# Altium schematic symbol library Atmel_By_element14_Batch_1-00.SCHLIB: 346 symbols (part 1 of 5)
Pins are listed as number, name and electrical type; pins without a type are passive.

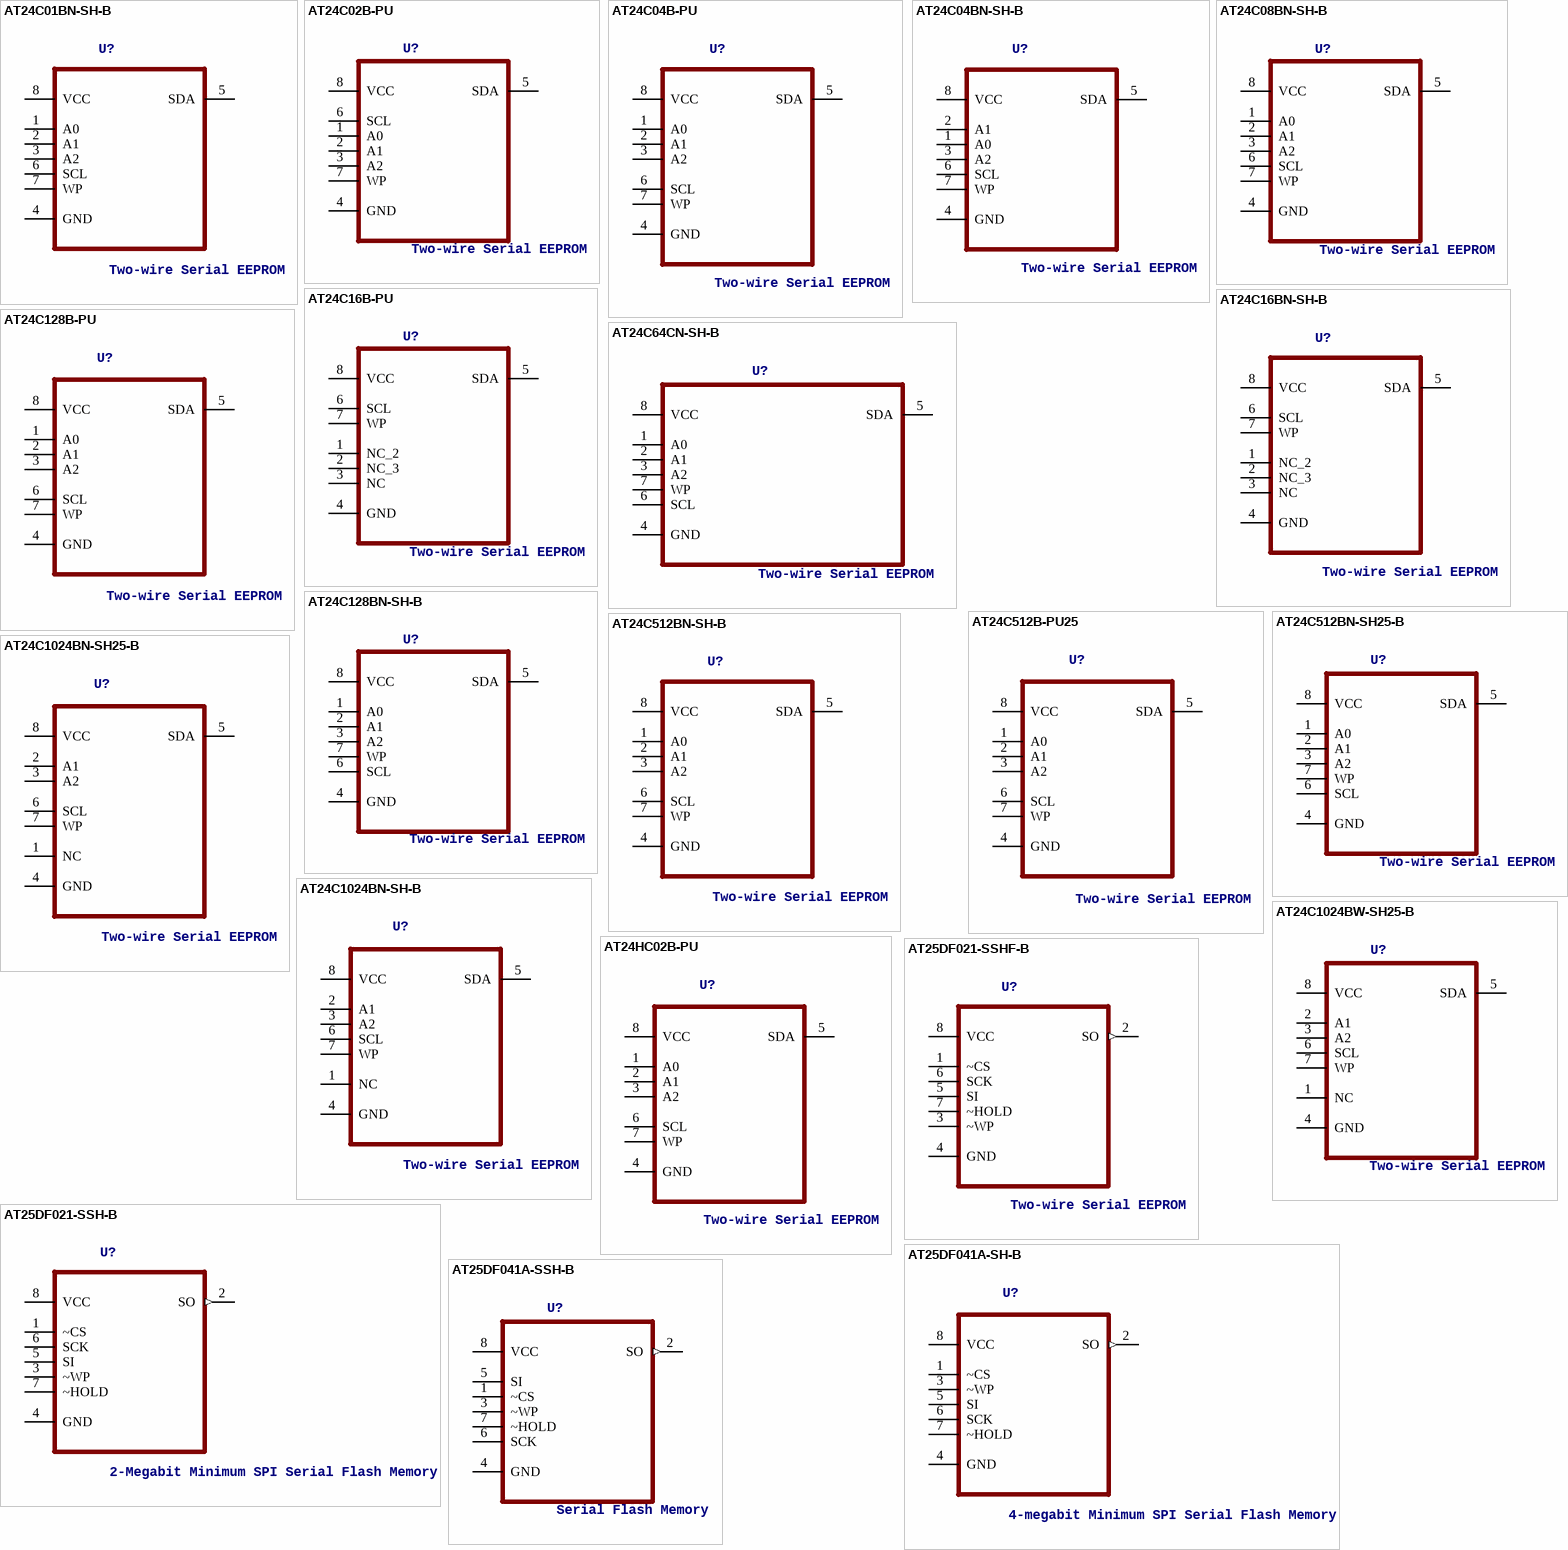
[diagram p0: symbols AT24C01BN-SH-B to AT25DF041A-SSH-B]

## AT24C01BN-SH-B
designator U?, comment Two-wire Serial EEPROM
MPN: AT24C01BN-SH-B; OC_FARNELL: 1362638; OC_NEWARK: 50M3313; PACKAGE: SOIC-8; SUPPLIER: Atmel
footprint SOIC127P600X175-8N
pins: 1 A0, 2 A1, 3 A2, 4 GND, 5 SDA, 6 SCL, 7 WP, 8 VCC (power)

## AT24C02B-PU
designator U?, comment Two-wire Serial EEPROM
MPN: AT24C02B-PU; OC_FARNELL: 1362639; OC_NEWARK: 50M3314; PACKAGE: DIP-8; SUPPLIER: Atmel
footprint DIP254P762X533-8
pins: 1 A0, 2 A1, 3 A2, 4 GND, 5 SDA, 6 SCL, 7 WP, 8 VCC (power)

## AT24C04B-PU
designator U?, comment Two-wire Serial EEPROM
MPN: AT24C04B-PU; OC_FARNELL: 1362642; OC_NEWARK: 50M3315; PACKAGE: PDIP-8; SUPPLIER: Atmel
footprint DIP254P762X533-8
pins: 1 A0, 2 A1, 3 A2, 4 GND, 5 SDA, 6 SCL, 7 WP, 8 VCC (power)

## AT24C04BN-SH-B
designator U?, comment Two-wire Serial EEPROM
MPN: AT24C04BN-SH-B; OC_FARNELL: 1362643; OC_NEWARK: 50M3316; PACKAGE: SOIC-8; SUPPLIER: Atmel
footprint SOIC127P600X175-8N
pins: 1 A0, 2 A1, 3 A2, 4 GND, 5 SDA, 6 SCL, 7 WP, 8 VCC (power)

## AT24C08BN-SH-B
designator U?, comment Two-wire Serial EEPROM
MPN: AT24C08BN-SH-B; OC_FARNELL: 1362645; OC_NEWARK: 50M3318; PACKAGE: SOIC-8; SUPPLIER: Atmel
footprint SOIC127P600X175-8N
pins: 1 A0, 2 A1, 3 A2, 4 GND, 5 SDA, 6 SCL, 7 WP, 8 VCC (power)

## AT24C16B-PU
designator U?, comment Two-wire Serial EEPROM
MPN: AT24C16B-PU; OC_FARNELL: 1362650; OC_NEWARK: 50M3323; PACKAGE: PDIP-8; SUPPLIER: Atmel
footprint DIP254P762X533-8
pins: 1 NC_2, 2 NC_3, 3 NC, 4 GND, 5 SDA, 6 SCL, 7 WP, 8 VCC (power)

## AT24C16BN-SH-B
designator U?, comment Two-wire Serial EEPROM
MPN: AT24C16BN-SH-B; OC_FARNELL: 1362651; OC_NEWARK: 50M3324; PACKAGE: SOIC-8; SUPPLIER: Atmel
footprint SOIC127P600X175-8N
pins: 1 NC_2, 2 NC_3, 3 NC, 4 GND, 5 SDA, 6 SCL, 7 WP, 8 VCC (power)

## AT24C64CN-SH-B
designator U?, comment Two-wire Serial EEPROM
MPN: AT24C64CN-SH-B; OC_FARNELL: 1362658; OC_NEWARK: -; PACKAGE: SOIC-8; SUPPLIER: Atmel
footprint SOIC127P600X175-8N
pins: 1 A0, 2 A1, 3 A2, 4 GND, 5 SDA, 6 SCL, 7 WP, 8 VCC (power)

## AT24C128B-PU
designator U?, comment Two-wire Serial EEPROM
MPN: AT24C128B-PU; OC_FARNELL: 1362648; OC_NEWARK: 50M3321; PACKAGE: PDIP-8; SUPPLIER: Atmel
footprint DIP254P762X533-8
pins: 1 A0, 2 A1, 3 A2, 4 GND, 5 SDA, 6 SCL, 7 WP, 8 VCC (power)

## AT24C128BN-SH-B
designator U?, comment Two-wire Serial EEPROM
MPN: AT24C128BN-SH-B; OC_FARNELL: 1362649; OC_NEWARK: 50M3322; PACKAGE: SOIC-8; SUPPLIER: Atmel
footprint SOIC127P600X175-8N
pins: 1 A0, 2 A1, 3 A2, 4 GND, 5 SDA, 6 SCL, 7 WP, 8 VCC (power)

## AT24C512B-PU25
designator U?, comment Two-wire Serial EEPROM
MPN: AT24C512B-PU25; OC_FARNELL: 1362655; OC_NEWARK: -; PACKAGE: PDIP-8; SUPPLIER: Atmel
footprint DIP254P762X533-8
pins: 1 A0, 2 A1, 3 A2, 4 GND, 5 SDA, 6 SCL, 7 WP, 8 VCC (power)

## AT24C512BN-SH25-B
designator U?, comment Two-wire Serial EEPROM
MPN: AT24C512BN-SH25-B; OC_FARNELL: 1362656; OC_NEWARK: 50M3328; PACKAGE: SOIC-8; SUPPLIER: Atmel
footprint SOIC127P600X175-8N
pins: 1 A0, 2 A1, 3 A2, 4 GND, 5 SDA, 6 SCL, 7 WP, 8 VCC (power)

## AT24C512BN-SH-B
designator U?, comment Two-wire Serial EEPROM
MPN: AT24C512BN-SH-B; OC_FARNELL: 1455014; OC_NEWARK: -; PACKAGE: SOIC-8; SUPPLIER: Atmel
footprint SOIC127P600X175-8N
pins: 1 A0, 2 A1, 3 A2, 4 GND, 5 SDA, 6 SCL, 7 WP, 8 VCC (power)

## AT24C1024BN-SH25-B
designator U?, comment Two-wire Serial EEPROM
MPN: AT24C1024BN-SH25-B; OC_FARNELL: 1455012; OC_NEWARK: 58M3811; PACKAGE: SOIC-8; SUPPLIER: Atmel
footprint SOIC127P600X175-8N
pins: 1 NC, 2 A1, 3 A2, 4 GND, 5 SDA, 6 SCL, 7 WP, 8 VCC (power)

## AT24C1024BN-SH-B
designator U?, comment Two-wire Serial EEPROM
MPN: AT24C1024BN-SH-B; OC_FARNELL: 1636610; OC_NEWARK: 03P2043; PACKAGE: SOIC-8; SUPPLIER: Atmel
footprint SOIC127P600X175-8N
pins: 1 NC, 2 A1, 3 A2, 4 GND, 5 SDA, 6 SCL, 7 WP, 8 VCC (power)

## AT24C1024BW-SH25-B
designator U?, comment Two-wire Serial EEPROM
MPN: AT24C1024BW-SH25-B; OC_FARNELL: 1362647; OC_NEWARK: 50M3320; PACKAGE: SOIC-8; SUPPLIER: Atmel
footprint SOIC127P798X216-8N
pins: 1 NC, 2 A1, 3 A2, 4 GND, 5 SDA, 6 SCL, 7 WP, 8 VCC (power)

## AT24HC02B-PU
designator U?, comment Two-wire Serial EEPROM
MPN: AT24HC02B-PU; OC_FARNELL: 1362640; OC_NEWARK: 50M3331; PACKAGE: PDIP-8; SUPPLIER: Atmel
footprint DIP254P762X533-8
pins: 1 A0, 2 A1, 3 A2, 4 GND, 5 SDA, 6 SCL, 7 WP, 8 VCC (power)

## AT25DF021-SSH-B
designator U?, comment 2-Megabit Minimum SPI Serial Flash Memory
MPN: AT25DF021-SSH-B; OC_FARNELL: 1715438; OC_NEWARK: 15R0303; PACKAGE: SOIC-8; SUPPLIER: Atmel
footprint SOIC127P600X175-8N
pins: 1 ~CS, 2 SO (out), 3 ~WP, 4 GND, 5 SI, 6 SCK, 7 ~HOLD, 8 VCC (power)

## AT25DF021-SSHF-B
designator U?, comment Two-wire Serial EEPROM
MPN: AT25DF021-SSHF-B; OC_FARNELL: 1715439; OC_NEWARK: 15R0304; PACKAGE: SOIC-8; SUPPLIER: Atmel
footprint SOIC127P600X175-8N
pins: 1 ~CS, 2 SO (out), 3 ~WP, 4 GND, 5 SI, 6 SCK, 7 ~HOLD, 8 VCC (power)

## AT25DF041A-SH-B
designator U?, comment 4-megabit Minimum SPI Serial Flash Memory
MPN: AT25DF041A-SH-B; OC_FARNELL: 1715440; OC_NEWARK: 15R0305; PACKAGE: SOIC-8; SUPPLIER: Atmel
footprint SOIC127P798X216-8N
pins: 1 ~CS, 2 SO (out), 3 ~WP, 4 GND, 5 SI, 6 SCK, 7 ~HOLD, 8 VCC (power)

## AT25DF041A-SSH-B
designator U?, comment Serial Flash Memory
MPN: AT25DF041A-SSH-B; OC_FARNELL: 1715441; OC_NEWARK: 15R0306; PACKAGE: SOIC-8; SUPPLIER: Atmel
footprint SOIC127P600X175-8N
pins: 1 ~CS, 2 SO (out), 3 ~WP, 4 GND, 5 SI, 6 SCK, 7 ~HOLD, 8 VCC (power)

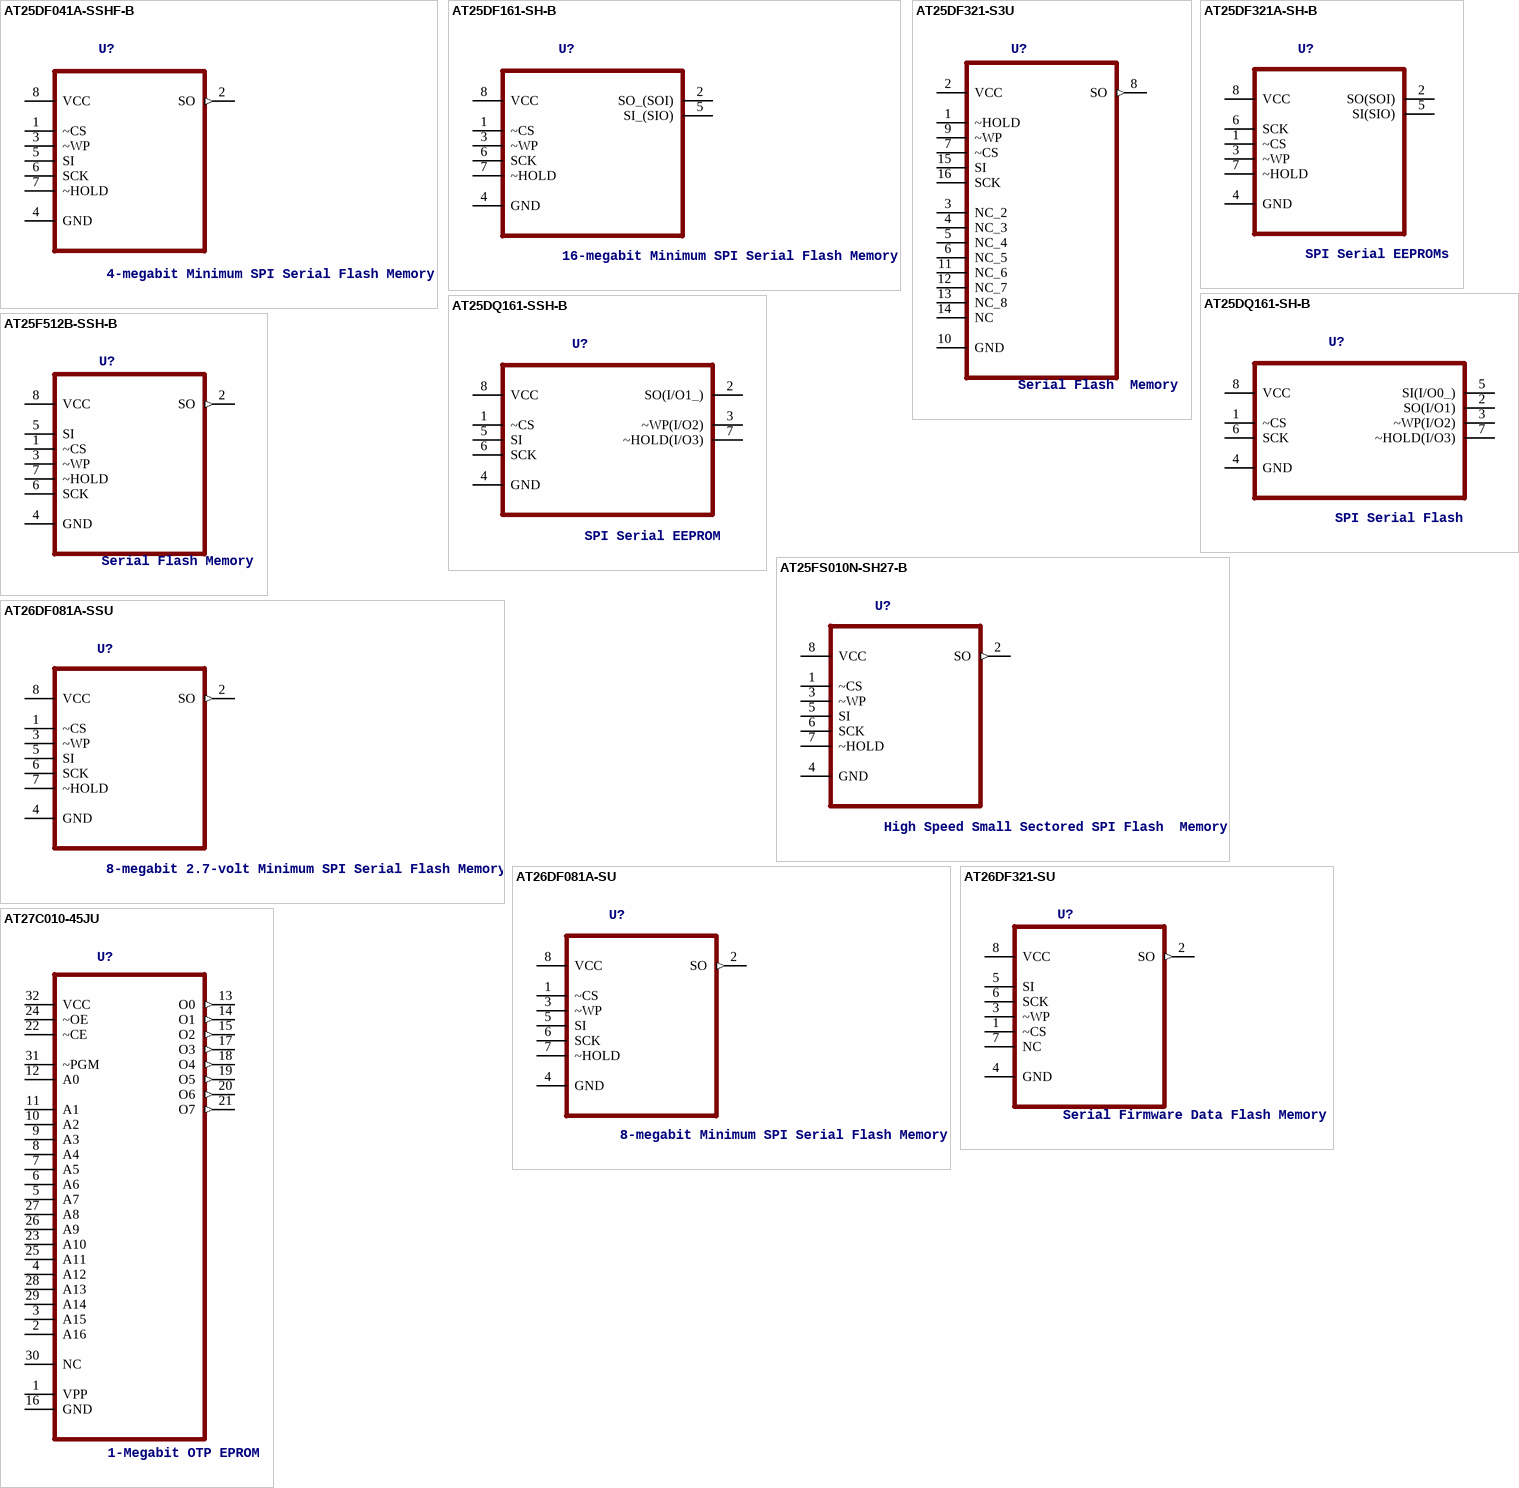
[diagram p1: symbols AT25DF041A-SSHF-B to AT27C010-45JU]

## AT25DF041A-SSHF-B
designator U?, comment 4-megabit Minimum SPI Serial Flash Memory
MPN: AT25DF041A-SSHF-B; OC_FARNELL: 1636622; OC_NEWARK: 03P2050; PACKAGE: SOIC-8; SUPPLIER: Atmel
footprint SOIC127P600X175-8N
pins: 1 ~CS, 2 SO (out), 3 ~WP, 4 GND, 5 SI, 6 SCK, 7 ~HOLD, 8 VCC (power)

## AT25DF161-SH-B
designator U?, comment 16-megabit Minimum SPI Serial Flash Memory
MPN: AT25DF161-SH-B; OC_FARNELL: 1715442; OC_NEWARK: 15R0307; PACKAGE: SOIC-8; SUPPLIER: Atmel
footprint SOIC127P798X216-8N
pins: 1 ~CS, 2 SO_(SOI), 3 ~WP, 4 GND, 5 SI_(SIO), 6 SCK, 7 ~HOLD, 8 VCC (power)

## AT25DF321-S3U
designator U?, comment Serial Flash  Memory
MPN: AT25DF321-S3U; OC_FARNELL: 1636624; OC_NEWARK: 03P2053; PACKAGE: SOIC-16; SUPPLIER: Atmel
footprint SOIC127P1030X265-16N
pins: 1 ~HOLD, 2 VCC (power), 3 NC_2, 4 NC_3, 5 NC_4, 6 NC_5, 7 ~CS, 8 SO (out), 9 ~WP, 10 GND, 11 NC_6, 12 NC_7, 13 NC_8, 14 NC, 15 SI, 16 SCK

## AT25DF321A-SH-B
designator U?, comment SPI Serial EEPROMs
MPN: AT25DF321A-SH-B; OC_FARNELL: 1841583; OC_NEWARK: 12T1349; PACKAGE: SOIC-8; SUPPLIER: Atmel
footprint SOIC127P798X216-8N
pins: 1 ~CS, 2 SO(SOI), 3 ~WP, 4 GND, 5 SI(SIO), 6 SCK, 7 ~HOLD, 8 VCC (power)

## AT25DQ161-SH-B
designator U?, comment SPI Serial Flash
MPN: AT25DQ161-SH-B; OC_FARNELL: 1841584; OC_NEWARK: 12T1350; PACKAGE: SOIC-8; SUPPLIER: Atmel
footprint SOIC127P798X216-8N
pins: 1 ~CS, 2 SO(I/O1), 3 ~WP(I/O2), 4 GND, 5 SI(I/O0_), 6 SCK, 7 ~HOLD(I/O3), 8 VCC (power)

## AT25DQ161-SSH-B
designator U?, comment SPI Serial EEPROM
MPN: AT25DQ161-SSH-B; OC_FARNELL: 1841585; OC_NEWARK: 12T1351; PACKAGE: SOIC-8; SUPPLIER: Atmel
footprint SOIC127P600X175-8N
pins: 1 ~CS, 2 SO(I/O1_), 3 ~WP(I/O2), 4 GND, 5 SI, 6 SCK, 7 ~HOLD(I/O3), 8 VCC (power)

## AT25F512B-SSH-B
designator U?, comment Serial Flash Memory
MPN: AT25F512B-SSH-B; OC_FARNELL: 1715445; OC_NEWARK: 15R0311; PACKAGE: SOIC-8; SUPPLIER: Atmel
footprint SOIC127P600X175-8N
pins: 1 ~CS, 2 SO (out), 3 ~WP, 4 GND, 5 SI, 6 SCK, 7 ~HOLD, 8 VCC (power)

## AT25FS010N-SH27-B
designator U?, comment High Speed Small Sectored SPI Flash  Memory
MPN: AT25FS010N-SH27-B; OC_FARNELL: 1715447; OC_NEWARK: -; PACKAGE: SOIC-8; SUPPLIER: Atmel
footprint SOIC127P600X175-8N
pins: 1 ~CS, 2 SO (out), 3 ~WP, 4 GND, 5 SI, 6 SCK, 7 ~HOLD, 8 VCC (power)

## AT26DF081A-SSU
designator U?, comment 8-megabit 2.7-volt Minimum SPI Serial Flash Memory
MPN: AT26DF081A-SSU; OC_FARNELL: 1715448; OC_NEWARK: -; PACKAGE: SOIC-8; SUPPLIER: Atmel
footprint SOIC127P600X175-8N
pins: 1 ~CS, 2 SO (out), 3 ~WP, 4 GND, 5 SI, 6 SCK, 7 ~HOLD, 8 VCC (power)

## AT26DF081A-SU
designator U?, comment 8-megabit Minimum SPI Serial Flash Memory
MPN: AT26DF081A-SU; OC_FARNELL: 1455015; OC_NEWARK: -; PACKAGE: SOIC-8; SUPPLIER: Atmel
footprint SOIC127P798X216-8N
pins: 1 ~CS, 2 SO (out), 3 ~WP, 4 GND, 5 SI, 6 SCK, 7 ~HOLD, 8 VCC (power)

## AT26DF321-SU
designator U?, comment Serial Firmware Data Flash Memory
MPN: AT26DF321-SU; OC_FARNELL: 1455017; OC_NEWARK: 58M3816; PACKAGE: SOIC-8; SUPPLIER: Atmel
footprint SOIC127P798X216-8N
pins: 1 ~CS, 2 SO (out), 3 ~WP, 4 GND, 5 SI, 6 SCK, 7 NC, 8 VCC (power)

## AT27C010-45JU
designator U?, comment 1-Megabit OTP EPROM
MPN: AT27C010-45JU; DESCRIPTION: 1-Megabit OTP EPROM; OC_FARNELL: 1455018; OC_NEWARK: 58M3817; PACKAGE: PLCC-32; SUPPLIER: Atmel
footprint PLCC127P1500X1250X355-32N
pins: 1 VPP (power), 2 A16, 3 A15, 4 A12, 5 A7, 6 A6, 7 A5, 8 A4, 9 A3, 10 A2, 11 A1, 12 A0, 13 O0 (out), 14 O1 (out), 15 O2 (out), 16 GND, 17 O3 (out), 18 O4 (out), 19 O5 (out), 20 O6 (out), 21 O7 (out), 22 ~CE, 23 A10, 24 ~OE, 25 A11, 26 A9, 27 A8, 28 A13, 29 A14, 30 NC, 31 ~PGM, 32 VCC (power)

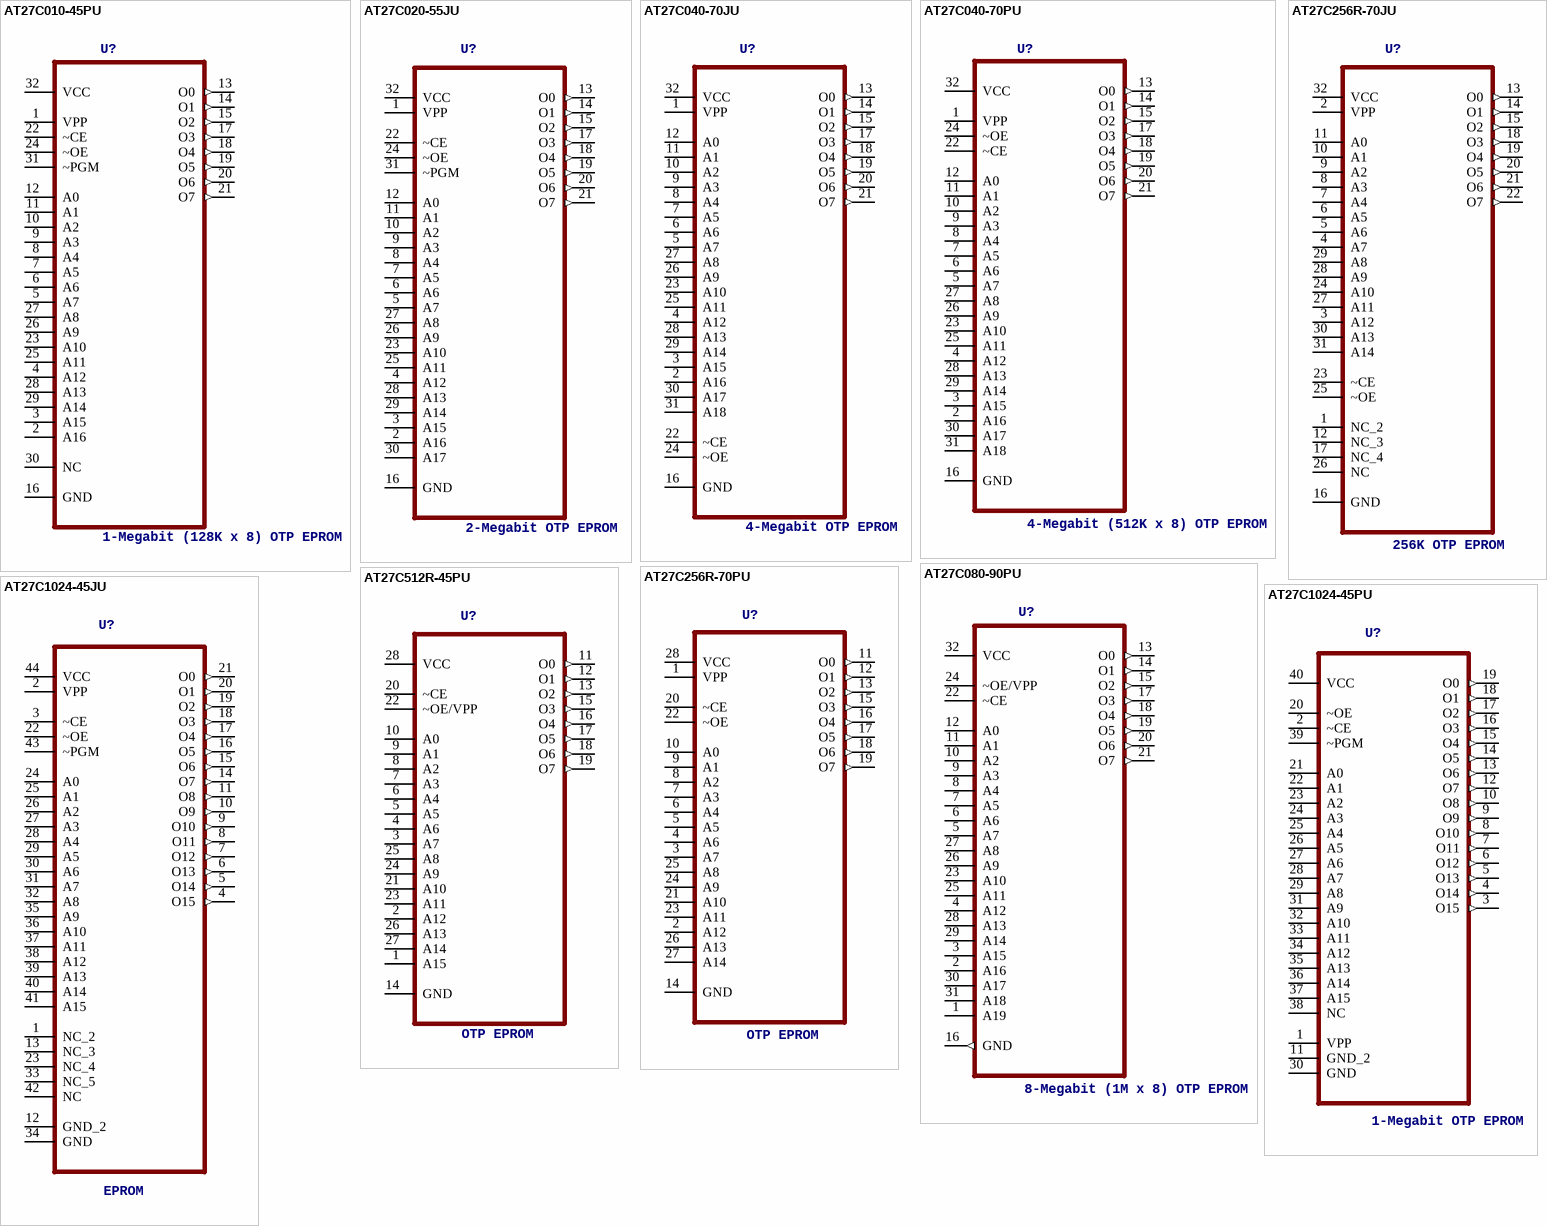
[diagram p2: symbols AT27C010-45PU to AT27C1024-45PU]

## AT27C010-45PU
designator U?, comment 1-Megabit (128K x 8) OTP EPROM
MPN: AT27C010-45PU; OC_FARNELL: 1455019; OC_NEWARK: 58M3818; PACKAGE: PDIP-32; SUPPLIER: Atmel
footprint DIP254P1524X482-32
pins: 1 VPP (power), 2 A16, 3 A15, 4 A12, 5 A7, 6 A6, 7 A5, 8 A4, 9 A3, 10 A2, 11 A1, 12 A0, 13 O0 (out), 14 O1 (out), 15 O2 (out), 16 GND, 17 O3 (out), 18 O4 (out), 19 O5 (out), 20 O6 (out), 21 O7 (out), 22 ~CE, 23 A10, 24 ~OE, 25 A11, 26 A9, 27 A8, 28 A13, 29 A14, 30 NC, 31 ~PGM, 32 VCC (power)

## AT27C020-55JU
designator U?, comment 2-Megabit OTP EPROM
MPN: AT27C020-55JU; DESCRIPTION: 2-Megabit OTP EPROM; OC_FARNELL: 1455020; OC_NEWARK: 58M3819; PACKAGE: PLCC-32; SUPPLIER: Atmel Corporation
footprint PLCC127P1244X1498X357-32N
pins: 1 VPP (power), 2 A16, 3 A15, 4 A12, 5 A7, 6 A6, 7 A5, 8 A4, 9 A3, 10 A2, 11 A1, 12 A0, 13 O0 (out), 14 O1 (out), 15 O2 (out), 16 GND, 17 O3 (out), 18 O4 (out), 19 O5 (out), 20 O6 (out), 21 O7 (out), 22 ~CE, 23 A10, 24 ~OE, 25 A11, 26 A9, 27 A8, 28 A13, 29 A14, 30 A17, 31 ~PGM, 32 VCC (power)

## AT27C040-70JU
designator U?, comment 4-Megabit OTP EPROM
MPN: AT27C040-70JU; DESCRIPTION: 4-Megabit OTP EPROM; OC_FARNELL: 1455022; OC_NEWARK: 58M3821; PACKAGE: PLCC-32; SUPPLIER: Atmel Corporation
footprint PLCC127P1244X1498X357-32N
pins: 1 VPP (power), 2 A16, 3 A15, 4 A12, 5 A7, 6 A6, 7 A5, 8 A4, 9 A3, 10 A2, 11 A1, 12 A0, 13 O0 (out), 14 O1 (out), 15 O2 (out), 16 GND, 17 O3 (out), 18 O4 (out), 19 O5 (out), 20 O6 (out), 21 O7 (out), 22 ~CE, 23 A10, 24 ~OE, 25 A11, 26 A9, 27 A8, 28 A13, 29 A14, 30 A17, 31 A18, 32 VCC (power)

## AT27C040-70PU
designator U?, comment 4-Megabit (512K x 8) OTP EPROM
MPN: AT27C040-70PU; OC_FARNELL: 1455024; OC_NEWARK: 58M3822; PACKAGE: PDIP-32; SUPPLIER: Atmel
footprint DIP254P1524X482-32
pins: 1 VPP (power), 2 A16, 3 A15, 4 A12, 5 A7, 6 A6, 7 A5, 8 A4, 9 A3, 10 A2, 11 A1, 12 A0, 13 O0 (out), 14 O1 (out), 15 O2 (out), 16 GND, 17 O3 (out), 18 O4 (out), 19 O5 (out), 20 O6 (out), 21 O7 (out), 22 ~CE, 23 A10, 24 ~OE, 25 A11, 26 A9, 27 A8, 28 A13, 29 A14, 30 A17, 31 A18, 32 VCC (power)

## AT27C080-90PU
designator U?, comment 8-Megabit (1M x 8) OTP EPROM
MPN: AT27C080-90PU; OC_FARNELL: 1455026; OC_NEWARK: 58M3824; PACKAGE: PDIP-32; SUPPLIER: Atmel
footprint DIP254P1524X482-32
pins: 1 A19, 2 A16, 3 A15, 4 A12, 5 A7, 6 A6, 7 A5, 8 A4, 9 A3, 10 A2, 11 A1, 12 A0, 13 O0 (out), 14 O1 (out), 15 O2 (out), 16 GND (out), 17 O3 (out), 18 O4 (out), 19 O5 (out), 20 O6 (out), 21 O7 (out), 22 ~CE, 23 A10, 24 ~OE/VPP, 25 A11, 26 A9, 27 A8, 28 A13, 29 A14, 30 A17, 31 A18, 32 VCC (power)

## AT27C256R-70JU
designator U?, comment 256K OTP EPROM
MPN: AT27C256R-70JU; DESCRIPTION: 256K OTP EPROM; OC_FARNELL: 1095779; OC_NEWARK: 96K6554; PACKAGE: PLCC-32; SUPPLIER: Atmel Corporation
footprint PLCC127P1244X1498X357-32N
pins: 1 NC_2, 2 VPP (power), 3 A12, 4 A7, 5 A6, 6 A5, 7 A4, 8 A3, 9 A2, 10 A1, 11 A0, 12 NC_3, 13 O0 (out), 14 O1 (out), 15 O2 (out), 16 GND, 17 NC_4, 18 O3 (out), 19 O4 (out), 20 O5 (out), 21 O6 (out), 22 O7 (out), 23 ~CE, 24 A10, 25 ~OE, 26 NC, 27 A11, 28 A9, 29 A8, 30 A13, 31 A14, 32 VCC (power)

## AT27C256R-70PU
designator U?, comment OTP EPROM
MPN: AT27C256R-70PU; DESCRIPTION: OTP EPROM; OC_FARNELL: 1095781; OC_NEWARK: 80K9716; PACKAGE: PDIP-28; SUPPLIER: ATMEL
footprint DIP254P1524X482-28
pins: 1 VPP (power), 2 A12, 3 A7, 4 A6, 5 A5, 6 A4, 7 A3, 8 A2, 9 A1, 10 A0, 11 O0 (out), 12 O1 (out), 13 O2 (out), 14 GND, 15 O3 (out), 16 O4 (out), 17 O5 (out), 18 O6 (out), 19 O7 (out), 20 ~CE, 21 A10, 22 ~OE, 23 A11, 24 A9, 25 A8, 26 A13, 27 A14, 28 VCC (power)

## AT27C512R-45PU
designator U?, comment OTP EPROM
MPN: AT27C512R-45PU; DESCRIPTION: OTP EPROM; OC_FARNELL: 1455028; OC_NEWARK: 58M3826; PACKAGE: PDIP-28; SUPPLIER: ATMEL
footprint DIP254P1524X482-28
pins: 1 A15 (power), 2 A12, 3 A7, 4 A6, 5 A5, 6 A4, 7 A3, 8 A2, 9 A1, 10 A0, 11 O0 (out), 12 O1 (out), 13 O2 (out), 14 GND, 15 O3 (out), 16 O4 (out), 17 O5 (out), 18 O6 (out), 19 O7 (out), 20 ~CE, 21 A10, 22 ~OE/VPP, 23 A11, 24 A9, 25 A8, 26 A13, 27 A14, 28 VCC (power)

## AT27C1024-45JU
designator U?, comment EPROM
MPN: AT27C1024-45JU; DESCRIPTION: EPROM; OC_FARNELL: 1841586; OC_NEWARK: 12T1362; PACKAGE: PLCC-44; SUPPLIER: Atmel
footprint PLCC127P1752X1752X457-44N
pins: 1 NC_2, 2 VPP (power), 3 ~CE, 4 O15 (out), 5 O14 (out), 6 O13 (out), 7 O12 (out), 8 O11 (out), 9 O10 (out), 10 O9 (out), 11 O8 (out), 12 GND_2, 13 NC_3, 14 O7 (out), 15 O6 (out), 16 O5 (out), 17 O4 (out), 18 O3 (out), 19 O2 (out), 20 O1 (out), 21 O0 (out), 22 ~OE, 23 NC_4, 24 A0, 25 A1, 26 A2, 27 A3, 28 A4, 29 A5, 30 A6, 31 A7, 32 A8, 33 NC_5, 34 GND, 35 A9, 36 A10, 37 A11, 38 A12, 39 A13, 40 A14, 41 A15, 42 NC, 43 ~PGM, 44 VCC (power)

## AT27C1024-45PU
designator U?, comment 1-Megabit OTP EPROM
MPN: AT27C1024-45PU; DESCRIPTION: 1-Megabit OTP EPROM; OC_FARNELL: 1841587; OC_NEWARK: 12T1363; PACKAGE: DIP-40; SUPPLIER: Atmel
footprint DIP254P1524X482-40
pins: 1 VPP (power), 2 ~CE, 3 O15 (out), 4 O14 (out), 5 O13 (out), 6 O12 (out), 7 O11 (out), 8 O10 (out), 9 O9 (out), 10 O8 (out), 11 GND_2, 12 O7 (out), 13 O6 (out), 14 O5 (out), 15 O4 (out), 16 O3 (out), 17 O2 (out), 18 O1 (out), 19 O0 (out), 20 ~OE, 21 A0, 22 A1, 23 A2, 24 A3, 25 A4, 26 A5, 27 A6, 28 A7, 29 A8, 30 GND, 31 A9, 32 A10, 33 A11, 34 A12, 35 A13, 36 A14, 37 A15, 38 NC, 39 ~PGM, 40 VCC (power)

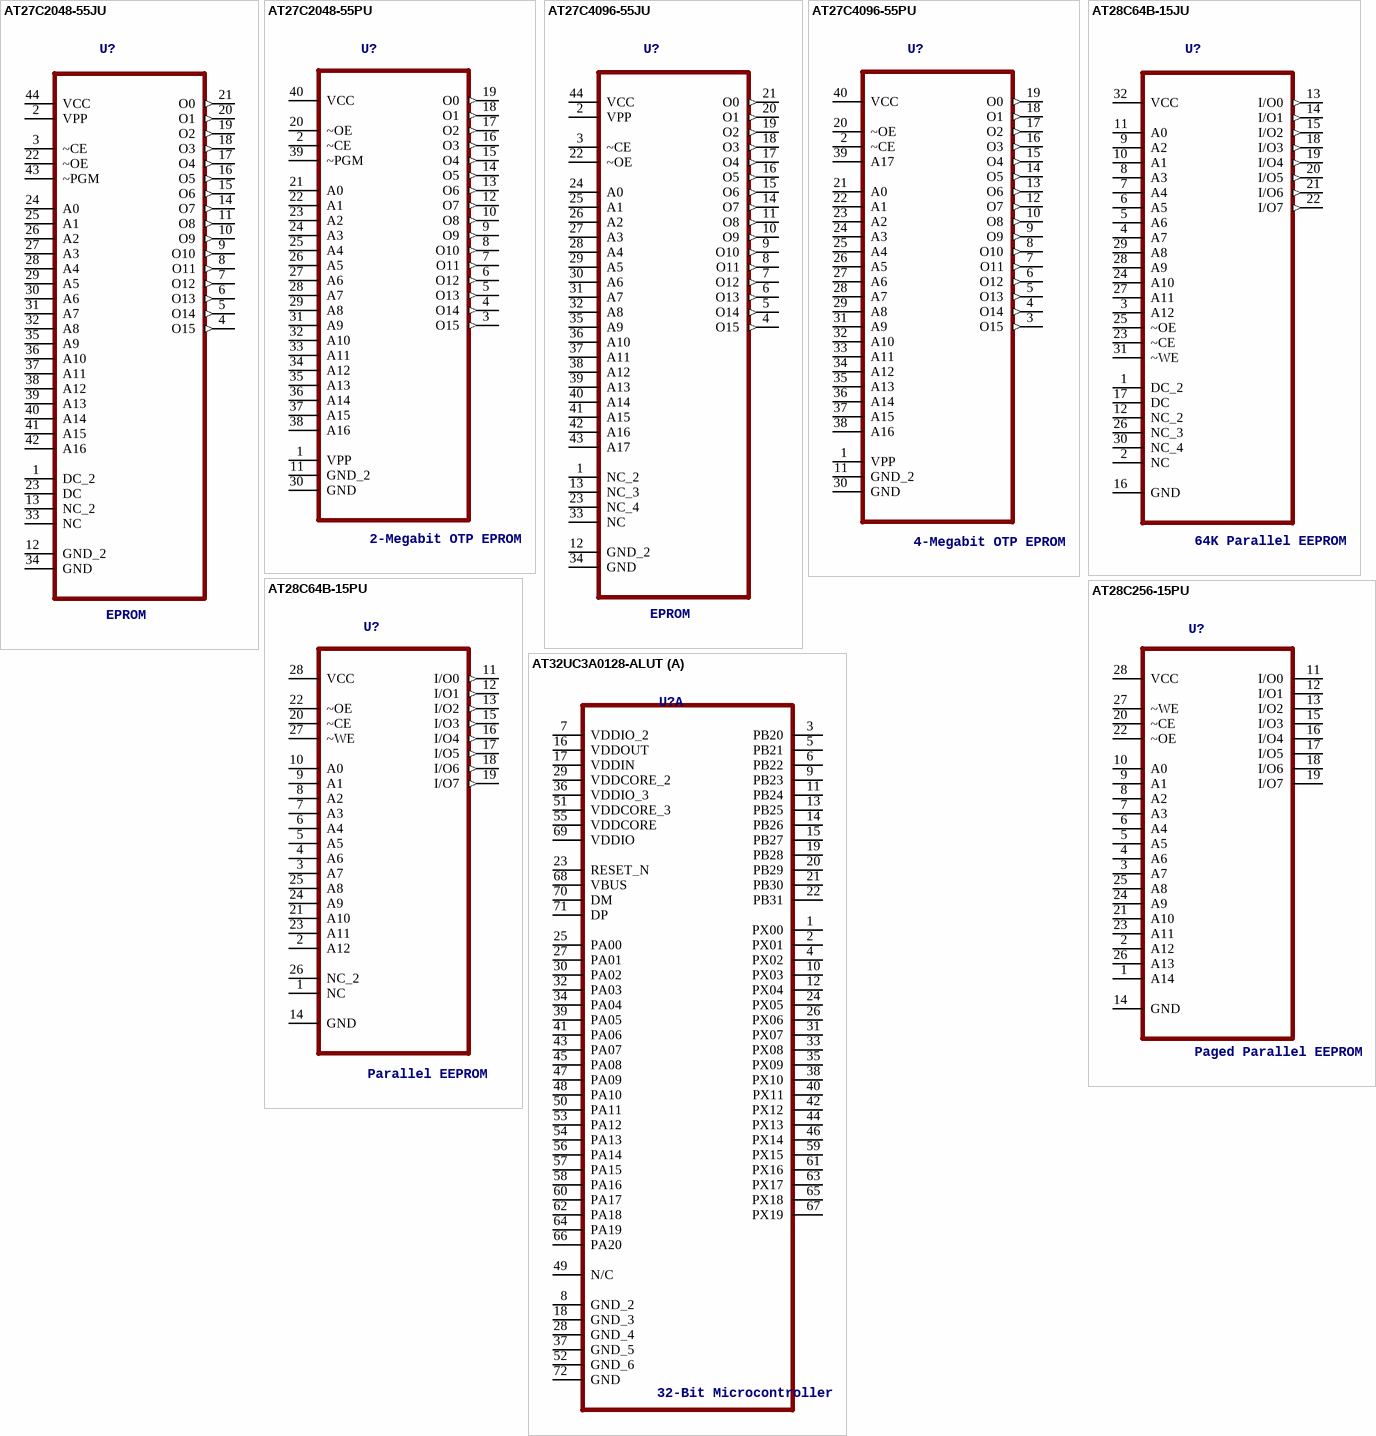
[diagram p3: symbols AT27C2048-55JU to AT32UC3A0128-ALUT]

## AT27C2048-55JU
designator U?, comment EPROM
MPN: AT27C2048-55JU; DESCRIPTION: EPROM; OC_FARNELL: 1841588; OC_NEWARK: 12T1364; PACKAGE: PLCC-44; SUPPLIER: Atmel
footprint PLCC127P1752X1752X457-44N
pins: 1 DC_2, 2 VPP (power), 3 ~CE, 4 O15 (out), 5 O14 (out), 6 O13 (out), 7 O12 (out), 8 O11 (out), 9 O10 (out), 10 O9 (out), 11 O8 (out), 12 GND_2, 13 NC_2, 14 O7 (out), 15 O6 (out), 16 O5 (out), 17 O4 (out), 18 O3 (out), 19 O2 (out), 20 O1 (out), 21 O0 (out), 22 ~OE, 23 DC, 24 A0, 25 A1, 26 A2, 27 A3, 28 A4, 29 A5, 30 A6, 31 A7, 32 A8, 33 NC, 34 GND, 35 A9, 36 A10, 37 A11, 38 A12, 39 A13, 40 A14, 41 A15, 42 A16, 43 ~PGM, 44 VCC (power)

## AT27C2048-55PU
designator U?, comment 2-Megabit OTP EPROM
MPN: AT27C2048-55PU; DESCRIPTION: 2-Megabit OTP EPROM; OC_FARNELL: 1841589; OC_NEWARK: -; PACKAGE: DIP-40; SUPPLIER: Atmel
footprint DIP254P1524X482-40
pins: 1 VPP (power), 2 ~CE, 3 O15 (out), 4 O14 (out), 5 O13 (out), 6 O12 (out), 7 O11 (out), 8 O10 (out), 9 O9 (out), 10 O8 (out), 11 GND_2, 12 O7 (out), 13 O6 (out), 14 O5 (out), 15 O4 (out), 16 O3 (out), 17 O2 (out), 18 O1 (out), 19 O0 (out), 20 ~OE, 21 A0, 22 A1, 23 A2, 24 A3, 25 A4, 26 A5, 27 A6, 28 A7, 29 A8, 30 GND, 31 A9, 32 A10, 33 A11, 34 A12, 35 A13, 36 A14, 37 A15, 38 A16, 39 ~PGM, 40 VCC (power)

## AT27C4096-55JU
designator U?, comment EPROM
MPN: AT27C4096-55JU; DESCRIPTION: EPROM; OC_FARNELL: 1841590; OC_NEWARK: 12T1366; PACKAGE: PLCC-44; SUPPLIER: Atmel
footprint PLCC127P1752X1752X457-44N
pins: 1 NC_2, 2 VPP (power), 3 ~CE, 4 O15 (out), 5 O14 (out), 6 O13 (out), 7 O12 (out), 8 O11 (out), 9 O10 (out), 10 O9 (out), 11 O8 (out), 12 GND_2, 13 NC_3, 14 O7 (out), 15 O6 (out), 16 O5 (out), 17 O4 (out), 18 O3 (out), 19 O2 (out), 20 O1 (out), 21 O0 (out), 22 ~OE, 23 NC_4, 24 A0, 25 A1, 26 A2, 27 A3, 28 A4, 29 A5, 30 A6, 31 A7, 32 A8, 33 NC, 34 GND, 35 A9, 36 A10, 37 A11, 38 A12, 39 A13, 40 A14, 41 A15, 42 A16, 43 A17, 44 VCC (power)

## AT27C4096-55PU
designator U?, comment 4-Megabit OTP EPROM
MPN: AT27C4096-55PU; DESCRIPTION: 4-Megabit OTP EPROM; OC_FARNELL: 1841591; OC_NEWARK: -; PACKAGE: DIP-40; SUPPLIER: Atmel
footprint DIP254P1524X482-40
pins: 1 VPP (power), 2 ~CE, 3 O15 (out), 4 O14 (out), 5 O13 (out), 6 O12 (out), 7 O11 (out), 8 O10 (out), 9 O9 (out), 10 O8 (out), 11 GND_2, 12 O7 (out), 13 O6 (out), 14 O5 (out), 15 O4 (out), 16 O3 (out), 17 O2 (out), 18 O1 (out), 19 O0 (out), 20 ~OE, 21 A0, 22 A1, 23 A2, 24 A3, 25 A4, 26 A5, 27 A6, 28 A7, 29 A8, 30 GND, 31 A9, 32 A10, 33 A11, 34 A12, 35 A13, 36 A14, 37 A15, 38 A16, 39 A17, 40 VCC (power)

## AT28C64B-15JU
designator U?, comment 64K Parallel EEPROM
MPN: AT28C64B-15JU; DESCRIPTION: 64K Parallel EEPROM; OC_FARNELL: 1095783; OC_NEWARK: 96K6556; PACKAGE: PLCC-32; SUPPLIER: Atmel
footprint PLCC127P1500X1250X355-32N
pins: 1 DC_2, 2 NC, 3 A12, 4 A7, 5 A6, 6 A5, 7 A4, 8 A3, 9 A2, 10 A1, 11 A0, 12 NC_2, 13 I/O0 (out), 14 I/O1 (out), 15 I/O2 (out), 16 GND, 17 DC, 18 I/O3 (out), 19 I/O4 (out), 20 I/O5 (out), 21 I/O6 (out), 22 I/O7 (out), 23 ~CE, 24 A10, 25 ~OE, 26 NC_3, 27 A11, 28 A9, 29 A8, 30 NC_4, 31 ~WE, 32 VCC (power)

## AT28C64B-15PU
designator U?, comment Parallel EEPROM
MPN: AT28C64B-15PU; DESCRIPTION: Parallel EEPROM; OC_FARNELL: 1095784; OC_NEWARK: 96K6557; PACKAGE: PCDIP-28; SUPPLIER: ATMEL
footprint DIP254P1524X482-28
pins: 1 NC, 2 A12, 3 A7, 4 A6, 5 A5, 6 A4, 7 A3, 8 A2, 9 A1, 10 A0, 11 I/O0 (out), 12 I/O1 (out), 13 I/O2 (out), 14 GND (power), 15 I/O3 (out), 16 I/O4 (out), 17 I/O5 (out), 18 I/O6 (out), 19 I/O7 (out), 20 ~CE, 21 A10, 22 ~OE (power), 23 A11, 24 A9, 25 A8, 26 NC_2, 27 ~WE, 28 VCC (power)

## AT28C256-15PU
designator U?, comment Paged Parallel EEPROM
MPN: AT28C256-15PU; DESCRIPTION: Paged Parallel EEPROM; OC_FARNELL: 1095782; OC_NEWARK: 96K6555; PACKAGE: PDIP-28; SUPPLIER: ATMEL
footprint DIP254P1524X482-28
pins: 1 A14, 2 A12, 3 A7, 4 A6, 5 A5, 6 A4, 7 A3, 8 A2, 9 A1, 10 A0, 11 I/O0, 12 I/O1, 13 I/O2, 14 GND, 15 I/O3, 16 I/O4, 17 I/O5, 18 I/O6, 19 I/O7, 20 ~CE, 21 A10, 22 ~OE, 23 A11, 24 A9, 25 A8, 26 A13, 27 ~WE, 28 VCC (power)

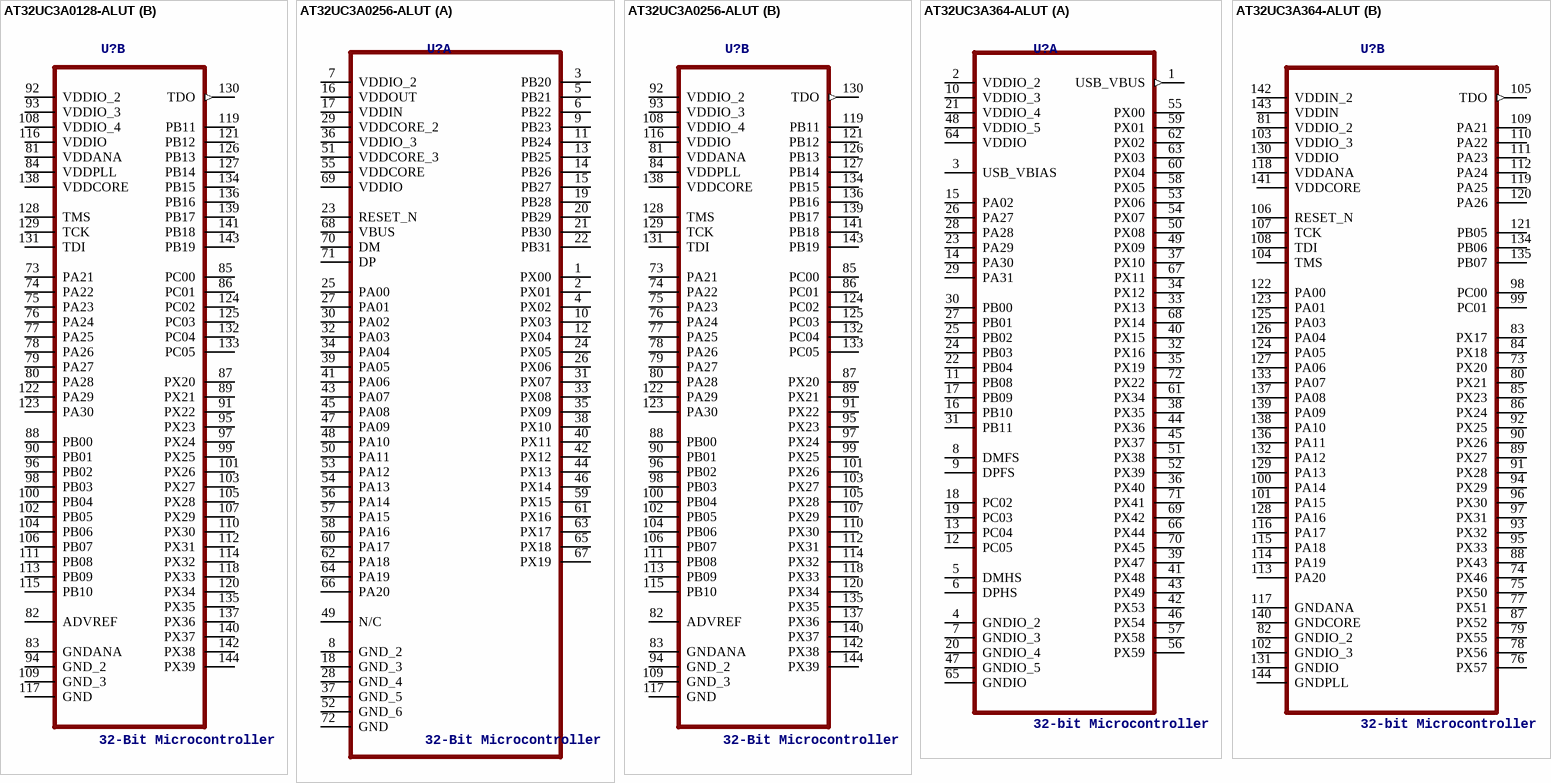
[diagram p4: symbols AT32UC3A0128-ALUT to AT32UC3A364-ALUT]

## AT32UC3A0128-ALUT
designator U?, comment 32-Bit Microcontroller
MPN: AT32UC3A0128-ALUT; DESCRIPTION: 32-Bit Microcontroller; OC_FARNELL: 1841633; OC_NEWARK: 12T1368; PACKAGE: LQFP-144; SUPPLIER: Atmel Corporation
footprint QFP50P2200X2200X160-144N
part A pins: 1 PX00, 2 PX01, 3 PB20, 4 PX02, 5 PB21, 6 PB22, 7 VDDIO_2 (power), 8 GND_2, 9 PB23, 10 PX03, 11 PB24, 12 PX04, 13 PB25, 14 PB26, 15 PB27, 16 VDDOUT (power), 17 VDDIN (power), 18 GND_3, 19 PB28, 20 PB29, 21 PB30, 22 PB31, 23 RESET_N, 24 PX05, 25 PA00, 26 PX06, 27 PA01, 28 GND_4, 29 VDDCORE_2 (power), 30 PA02, 31 PX07, 32 PA03, 33 PX08, 34 PA04, 35 PX09, 36 VDDIO_3 (power), 37 GND_5, 38 PX10, 39 PA05, 40 PX11, 41 PA06, 42 PX12, 43 PA07, 44 PX13, 45 PA08, 46 PX14, 47 PA09, 48 PA10, 49 N/C, 50 PA11, 51 VDDCORE_3 (power), 52 GND_6, 53 PA12, 54 PA13, 55 VDDCORE (power), 56 PA14, 57 PA15, 58 PA16, 59 PX15, 60 PA17, 61 PX16, 62 PA18, 63 PX17, 64 PA19, 65 PX18, 66 PA20, 67 PX19, 68 VBUS, 69 VDDIO (power), 70 DM, 71 DP, 72 GND
part B pins: 73 PA21, 74 PA22, 75 PA23, 76 PA24, 77 PA25, 78 PA26, 79 PA27, 80 PA28, 81 VDDANA (power), 82 ADVREF, 83 GNDANA, 84 VDDPLL (power), 85 PC00, 86 PC01, 87 PX20, 88 PB00, 89 PX21, 90 PB01, 91 PX22, 92 VDDIO_2 (power), 93 VDDIO_3 (power), 94 GND_2, 95 PX23, 96 PB02, 97 PX24, 98 PB03, 99 PX25, 100 PB04, 101 PX26, 102 PB05, 103 PX27, 104 PB06, 105 PX28, 106 PB07, 107 PX29, 108 VDDIO_4 (power), 109 GND_3, 110 PX30, 111 PB08, 112 PX31, 113 PB09, 114 PX32, 115 PB10, 116 VDDIO (power), 117 GND, 118 PX33, 119 PB11, 120 PX34, 121 PB12, 122 PA29, 123 PA30, 124 PC02, 125 PC03, 126 PB13, 127 PB14, 128 TMS, 129 TCK, 130 TDO (out), 131 TDI, 132 PC04, 133 PC05, 134 PB15, 135 PX35, 136 PB16, 137 PX36, 138 VDDCORE (power), 139 PB17, 140 PX37, 141 PB18, 142 PX38, 143 PB19, 144 PX39

## AT32UC3A0256-ALUT
designator U?, comment 32-Bit Microcontroller
MPN: AT32UC3A0256-ALUT; DESCRIPTION: 32-Bit Microcontroller; OC_FARNELL: 1841635; OC_NEWARK: 12T1369; PACKAGE: LQFP-144; SUPPLIER: Atmel Corporation
footprint QFP50P2200X2200X160-144N
part A pins: 1 PX00, 2 PX01, 3 PB20, 4 PX02, 5 PB21, 6 PB22, 7 VDDIO_2 (power), 8 GND_2, 9 PB23, 10 PX03, 11 PB24, 12 PX04, 13 PB25, 14 PB26, 15 PB27, 16 VDDOUT (power), 17 VDDIN (power), 18 GND_3, 19 PB28, 20 PB29, 21 PB30, 22 PB31, 23 RESET_N, 24 PX05, 25 PA00, 26 PX06, 27 PA01, 28 GND_4, 29 VDDCORE_2 (power), 30 PA02, 31 PX07, 32 PA03, 33 PX08, 34 PA04, 35 PX09, 36 VDDIO_3 (power), 37 GND_5, 38 PX10, 39 PA05, 40 PX11, 41 PA06, 42 PX12, 43 PA07, 44 PX13, 45 PA08, 46 PX14, 47 PA09, 48 PA10, 49 N/C, 50 PA11, 51 VDDCORE_3 (power), 52 GND_6, 53 PA12, 54 PA13, 55 VDDCORE (power), 56 PA14, 57 PA15, 58 PA16, 59 PX15, 60 PA17, 61 PX16, 62 PA18, 63 PX17, 64 PA19, 65 PX18, 66 PA20, 67 PX19, 68 VBUS, 69 VDDIO (power), 70 DM, 71 DP, 72 GND
part B pins: 73 PA21, 74 PA22, 75 PA23, 76 PA24, 77 PA25, 78 PA26, 79 PA27, 80 PA28, 81 VDDANA (power), 82 ADVREF, 83 GNDANA, 84 VDDPLL (power), 85 PC00, 86 PC01, 87 PX20, 88 PB00, 89 PX21, 90 PB01, 91 PX22, 92 VDDIO_2 (power), 93 VDDIO_3 (power), 94 GND_2, 95 PX23, 96 PB02, 97 PX24, 98 PB03, 99 PX25, 100 PB04, 101 PX26, 102 PB05, 103 PX27, 104 PB06, 105 PX28, 106 PB07, 107 PX29, 108 VDDIO_4 (power), 109 GND_3, 110 PX30, 111 PB08, 112 PX31, 113 PB09, 114 PX32, 115 PB10, 116 VDDIO (power), 117 GND, 118 PX33, 119 PB11, 120 PX34, 121 PB12, 122 PA29, 123 PA30, 124 PC02, 125 PC03, 126 PB13, 127 PB14, 128 TMS, 129 TCK, 130 TDO (out), 131 TDI, 132 PC04, 133 PC05, 134 PB15, 135 PX35, 136 PB16, 137 PX36, 138 VDDCORE (power), 139 PB17, 140 PX37, 141 PB18, 142 PX38, 143 PB19, 144 PX39

## AT32UC3A364-ALUT
designator U?, comment 32-bit Microcontroller
MPN: AT32UC3A364-ALUT; DESCRIPTION: 32-bit Microcontroller; OC_FARNELL: 1841639; OC_NEWARK: 12T1372; PACKAGE: LQFP-144; SUPPLIER: Atmel Corporation
footprint QFP50P2200X2200X160-144N
part A pins: 1 USB_VBUS (out), 2 VDDIO_2 (power), 3 USB_VBIAS, 4 GNDIO_2, 5 DMHS, 6 DPHS, 7 GNDIO_3, 8 DMFS, 9 DPFS, 10 VDDIO_3 (power), 11 PB08, 12 PC05, 13 PC04, 14 PA30, 15 PA02, 16 PB10, 17 PB09, 18 PC02, 19 PC03, 20 GNDIO_4, 21 VDDIO_4 (power), 22 PB04, 23 PA29, 24 PB03, 25 PB02, 26 PA27, 27 PB01, 28 PA28, 29 PA31, 30 PB00, 31 PB11, 32 PX16, 33 PX13, 34 PX12, 35 PX19, 36 PX40, 37 PX10, 38 PX35, 39 PX47, 40 PX15, 41 PX48, 42 PX53, 43 PX49, 44 PX36, 45 PX37, 46 PX54, 47 GNDIO_5, 48 VDDIO_5 (power), 49 PX09, 50 PX08, 51 PX38, 52 PX39, 53 PX06, 54 PX07, 55 PX00, 56 PX59, 57 PX58, 58 PX05, 59 PX01, 60 PX04, 61 PX34, 62 PX02, 63 PX03, 64 VDDIO (power), 65 GNDIO, 66 PX44, 67 PX11, 68 PX14, 69 PX42, 70 PX45, 71 PX41, 72 PX22
part B pins: 73 PX20, 74 PX46, 75 PX50, 76 PX57, 77 PX51, 78 PX56, 79 PX55, 80 PX21, 81 VDDIO_2 (power), 82 GNDIO_2, 83 PX17, 84 PX18, 85 PX23, 86 PX24, 87 PX52, 88 PX43, 89 PX27, 90 PX26, 91 PX28, 92 PX25, 93 PX32, 94 PX29, 95 PX33, 96 PX30, 97 PX31, 98 PC00, 99 PC01, 100 PA14, 101 PA15, 102 GNDIO_3, 103 VDDIO_3 (power), 104 TMS, 105 TDO (out), 106 RESET_N, 107 TCK, 108 TDI, 109 PA21, 110 PA22, 111 PA23, 112 PA24, 113 PA20, 114 PA19, 115 PA18, 116 PA17, 117 GNDANA, 118 VDDANA (power), 119 PA25, 120 PA26, 121 PB05, 122 PA00, 123 PA01, 124 PA05, 125 PA03, 126 PA04, 127 PA06, 128 PA16, 129 PA13, 130 VDDIO (power), 131 GNDIO, 132 PA12, 133 PA07, 134 PB06, 135 PB07, 136 PA11, 137 PA08, 138 PA10, 139 PA09, 140 GNDCORE, 141 VDDCORE (power), 142 VDDIN_2 (power), 143 VDDIN (power), 144 GNDPLL

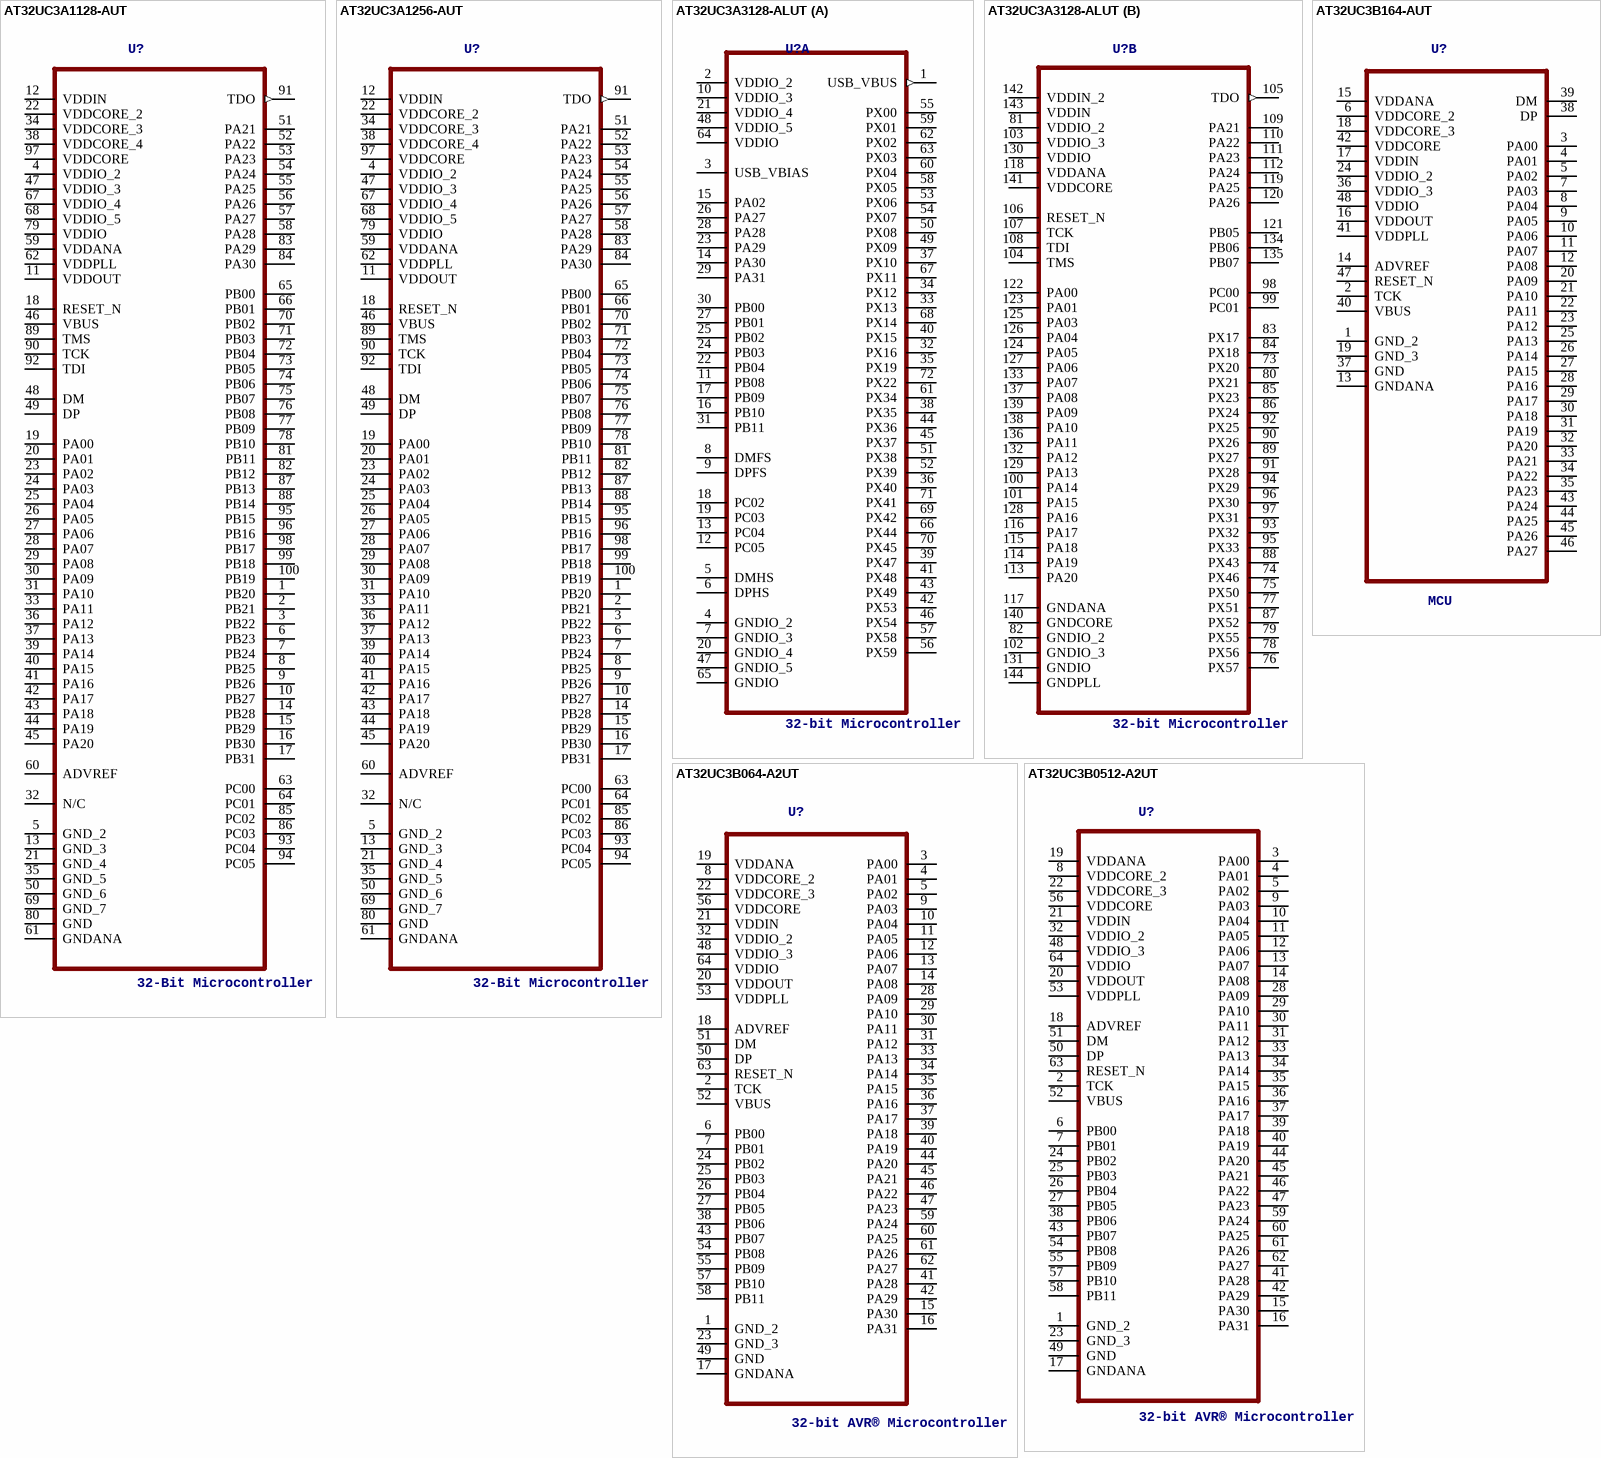
[diagram p5: symbols AT32UC3A1128-AUT to AT32UC3B0512-A2UT]

## AT32UC3A1128-AUT
designator U?, comment 32-Bit Microcontroller
MPN: AT32UC3A1128-AUT; DESCRIPTION: 32-Bit Microcontroller; OC_FARNELL: 1841636; OC_NEWARK: 12T1370; PACKAGE: TQFP-100; SUPPLIER: Atmel Corporation
footprint QFP50P1600X1600X120-100N
pins: 1 PB20, 2 PB21, 3 PB22, 4 VDDIO_2 (power), 5 GND_2, 6 PB23, 7 PB24, 8 PB25, 9 PB26, 10 PB27, 11 VDDOUT (power), 12 VDDIN (power), 13 GND_3, 14 PB28, 15 PB29, 16 PB30, 17 PB31, 18 RESET_N, 19 PA00, 20 PA01, 21 GND_4, 22 VDDCORE_2 (power), 23 PA02, 24 PA03, 25 PA04, 26 PA05, 27 PA06, 28 PA07, 29 PA08, 30 PA09, 31 PA10, 32 N/C, 33 PA11, 34 VDDCORE_3 (power), 35 GND_5, 36 PA12, 37 PA13, 38 VDDCORE_4 (power), 39 PA14, 40 PA15, 41 PA16, 42 PA17, 43 PA18, 44 PA19, 45 PA20, 46 VBUS, 47 VDDIO_3 (power), 48 DM, 49 DP, 50 GND_6, 51 PA21, 52 PA22, 53 PA23, 54 PA24, 55 PA25, 56 PA26, 57 PA27, 58 PA28, 59 VDDANA (power), 60 ADVREF, 61 GNDANA, 62 VDDPLL (power), 63 PC00, 64 PC01, 65 PB00, 66 PB01, 67 VDDIO_4 (power), 68 VDDIO_5 (power), 69 GND_7, 70 PB02, 71 PB03, 72 PB04, 73 PB05, 74 PB06, 75 PB07, 76 PB08, 77 PB09, 78 PB10, 79 VDDIO (power), 80 GND, 81 PB11, 82 PB12, 83 PA29, 84 PA30, 85 PC02, 86 PC03, 87 PB13, 88 PB14, 89 TMS, 90 TCK, 91 TDO (out), 92 TDI, 93 PC04, 94 PC05, 95 PB15, 96 PB16, 97 VDDCORE (power), 98 PB17, 99 PB18, 100 PB19

## AT32UC3A1256-AUT
designator U?, comment 32-Bit Microcontroller
MPN: AT32UC3A1256-AUT; DESCRIPTION: 32-Bit Microcontroller; OC_FARNELL: 1841637; OC_NEWARK: 91R0756; PACKAGE: TQFP-100; SUPPLIER: Atmel Corporation
footprint QFP50P1600X1600X120-100N
pins: 1 PB20, 2 PB21, 3 PB22, 4 VDDIO_2 (power), 5 GND_2, 6 PB23, 7 PB24, 8 PB25, 9 PB26, 10 PB27, 11 VDDOUT (power), 12 VDDIN (power), 13 GND_3, 14 PB28, 15 PB29, 16 PB30, 17 PB31, 18 RESET_N, 19 PA00, 20 PA01, 21 GND_4, 22 VDDCORE_2 (power), 23 PA02, 24 PA03, 25 PA04, 26 PA05, 27 PA06, 28 PA07, 29 PA08, 30 PA09, 31 PA10, 32 N/C, 33 PA11, 34 VDDCORE_3 (power), 35 GND_5, 36 PA12, 37 PA13, 38 VDDCORE_4 (power), 39 PA14, 40 PA15, 41 PA16, 42 PA17, 43 PA18, 44 PA19, 45 PA20, 46 VBUS, 47 VDDIO_3 (power), 48 DM, 49 DP, 50 GND_6, 51 PA21, 52 PA22, 53 PA23, 54 PA24, 55 PA25, 56 PA26, 57 PA27, 58 PA28, 59 VDDANA (power), 60 ADVREF, 61 GNDANA, 62 VDDPLL (power), 63 PC00, 64 PC01, 65 PB00, 66 PB01, 67 VDDIO_4 (power), 68 VDDIO_5 (power), 69 GND_7, 70 PB02, 71 PB03, 72 PB04, 73 PB05, 74 PB06, 75 PB07, 76 PB08, 77 PB09, 78 PB10, 79 VDDIO (power), 80 GND, 81 PB11, 82 PB12, 83 PA29, 84 PA30, 85 PC02, 86 PC03, 87 PB13, 88 PB14, 89 TMS, 90 TCK, 91 TDO (out), 92 TDI, 93 PC04, 94 PC05, 95 PB15, 96 PB16, 97 VDDCORE (power), 98 PB17, 99 PB18, 100 PB19

## AT32UC3A3128-ALUT
designator U?, comment 32-bit Microcontroller
MPN: AT32UC3A3128-ALUT; DESCRIPTION: 32-bit Microcontroller; OC_FARNELL: 1841638; OC_NEWARK: 12T1371; PACKAGE: LQFP-144; SUPPLIER: Atmel Corporation
footprint QFP50P2200X2200X160-144N
part A pins: 1 USB_VBUS (out), 2 VDDIO_2 (power), 3 USB_VBIAS, 4 GNDIO_2, 5 DMHS, 6 DPHS, 7 GNDIO_3, 8 DMFS, 9 DPFS, 10 VDDIO_3 (power), 11 PB08, 12 PC05, 13 PC04, 14 PA30, 15 PA02, 16 PB10, 17 PB09, 18 PC02, 19 PC03, 20 GNDIO_4, 21 VDDIO_4 (power), 22 PB04, 23 PA29, 24 PB03, 25 PB02, 26 PA27, 27 PB01, 28 PA28, 29 PA31, 30 PB00, 31 PB11, 32 PX16, 33 PX13, 34 PX12, 35 PX19, 36 PX40, 37 PX10, 38 PX35, 39 PX47, 40 PX15, 41 PX48, 42 PX53, 43 PX49, 44 PX36, 45 PX37, 46 PX54, 47 GNDIO_5, 48 VDDIO_5 (power), 49 PX09, 50 PX08, 51 PX38, 52 PX39, 53 PX06, 54 PX07, 55 PX00, 56 PX59, 57 PX58, 58 PX05, 59 PX01, 60 PX04, 61 PX34, 62 PX02, 63 PX03, 64 VDDIO (power), 65 GNDIO, 66 PX44, 67 PX11, 68 PX14, 69 PX42, 70 PX45, 71 PX41, 72 PX22
part B pins: 73 PX20, 74 PX46, 75 PX50, 76 PX57, 77 PX51, 78 PX56, 79 PX55, 80 PX21, 81 VDDIO_2 (power), 82 GNDIO_2, 83 PX17, 84 PX18, 85 PX23, 86 PX24, 87 PX52, 88 PX43, 89 PX27, 90 PX26, 91 PX28, 92 PX25, 93 PX32, 94 PX29, 95 PX33, 96 PX30, 97 PX31, 98 PC00, 99 PC01, 100 PA14, 101 PA15, 102 GNDIO_3, 103 VDDIO_3 (power), 104 TMS, 105 TDO (out), 106 RESET_N, 107 TCK, 108 TDI, 109 PA21, 110 PA22, 111 PA23, 112 PA24, 113 PA20, 114 PA19, 115 PA18, 116 PA17, 117 GNDANA, 118 VDDANA (power), 119 PA25, 120 PA26, 121 PB05, 122 PA00, 123 PA01, 124 PA05, 125 PA03, 126 PA04, 127 PA06, 128 PA16, 129 PA13, 130 VDDIO (power), 131 GNDIO, 132 PA12, 133 PA07, 134 PB06, 135 PB07, 136 PA11, 137 PA08, 138 PA10, 139 PA09, 140 GNDCORE, 141 VDDCORE (power), 142 VDDIN_2 (power), 143 VDDIN (power), 144 GNDPLL

## AT32UC3B064-A2UT
designator U?, comment 32-bit AVR® Microcontroller
MPN: AT32UC3B064-A2UT; DESCRIPTION: 32-bit AVR® Microcontroller; OC_FARNELL: 1841641; OC_NEWARK: 12T1374; PACKAGE: QFP-64; SUPPLIER: Atmel
footprint QFP50P1200X1200X120-64N
pins: 1 GND_2, 2 TCK, 3 PA00, 4 PA01, 5 PA02, 6 PB00, 7 PB01, 8 VDDCORE_2 (power), 9 PA03, 10 PA04, 11 PA05, 12 PA06, 13 PA07, 14 PA08, 15 PA30, 16 PA31, 17 GNDANA, 18 ADVREF, 19 VDDANA (power), 20 VDDOUT (power), 21 VDDIN (power), 22 VDDCORE_3 (power), 23 GND_3, 24 PB02, 25 PB03, 26 PB04, 27 PB05, 28 PA09, 29 PA10, 30 PA11, 31 PA12, 32 VDDIO_2 (power), 33 PA13, 34 PA14, 35 PA15, 36 PA16, 37 PA17, 38 PB06, 39 PA18, 40 PA19, 41 PA28, 42 PA29, 43 PB07, 44 PA20, 45 PA21, 46 PA22, 47 PA23, 48 VDDIO_3 (power), 49 GND, 50 DP, 51 DM, 52 VBUS, 53 VDDPLL (power), 54 PB08, 55 PB09, 56 VDDCORE (power), 57 PB10, 58 PB11, 59 PA24, 60 PA25, 61 PA26, 62 PA27, 63 RESET_N, 64 VDDIO (power)

## AT32UC3B164-AUT
designator U?, comment MCU
MPN: AT32UC3B164-AUT; DESCRIPTION: MCU; OC_FARNELL: 1841642; OC_NEWARK: 12T1375; PACKAGE: QFP-48; SUPPLIER: Atmel
footprint QFP50P900X900X120-48N
pins: 1 GND_2, 2 TCK, 3 PA00, 4 PA01, 5 PA02, 6 VDDCORE_2 (power), 7 PA03, 8 PA04, 9 PA05, 10 PA06, 11 PA07, 12 PA08, 13 GNDANA, 14 ADVREF, 15 VDDANA (power), 16 VDDOUT (power), 17 VDDIN (power), 18 VDDCORE_3 (power), 19 GND_3, 20 PA09, 21 PA10, 22 PA11, 23 PA12, 24 VDDIO_2 (power), 25 PA13, 26 PA14, 27 PA15, 28 PA16, 29 PA17, 30 PA18, 31 PA19, 32 PA20, 33 PA21, 34 PA22, 35 PA23, 36 VDDIO_3 (power), 37 GND, 38 DP, 39 DM, 40 VBUS, 41 VDDPLL (power), 42 VDDCORE (power), 43 PA24, 44 PA25, 45 PA26, 46 PA27, 47 RESET_N, 48 VDDIO (power)

## AT32UC3B0512-A2UT
designator U?, comment 32-bit AVR® Microcontroller
MPN: AT32UC3B0512-A2UT; DESCRIPTION: 32-bit AVR® Microcontroller; OC_FARNELL: 1841640; OC_NEWARK: 12T1373; PACKAGE: QFP-64; SUPPLIER: Atmel
footprint QFP50P1200X1200X120-64N
pins: 1 GND_2, 2 TCK, 3 PA00, 4 PA01, 5 PA02, 6 PB00, 7 PB01, 8 VDDCORE_2 (power), 9 PA03, 10 PA04, 11 PA05, 12 PA06, 13 PA07, 14 PA08, 15 PA30, 16 PA31, 17 GNDANA, 18 ADVREF, 19 VDDANA (power), 20 VDDOUT (power), 21 VDDIN (power), 22 VDDCORE_3 (power), 23 GND_3, 24 PB02, 25 PB03, 26 PB04, 27 PB05, 28 PA09, 29 PA10, 30 PA11, 31 PA12, 32 VDDIO_2 (power), 33 PA13, 34 PA14, 35 PA15, 36 PA16, 37 PA17, 38 PB06, 39 PA18, 40 PA19, 41 PA28, 42 PA29, 43 PB07, 44 PA20, 45 PA21, 46 PA22, 47 PA23, 48 VDDIO_3 (power), 49 GND, 50 DP, 51 DM, 52 VBUS, 53 VDDPLL (power), 54 PB08, 55 PB09, 56 VDDCORE (power), 57 PB10, 58 PB11, 59 PA24, 60 PA25, 61 PA26, 62 PA27, 63 RESET_N, 64 VDDIO (power)

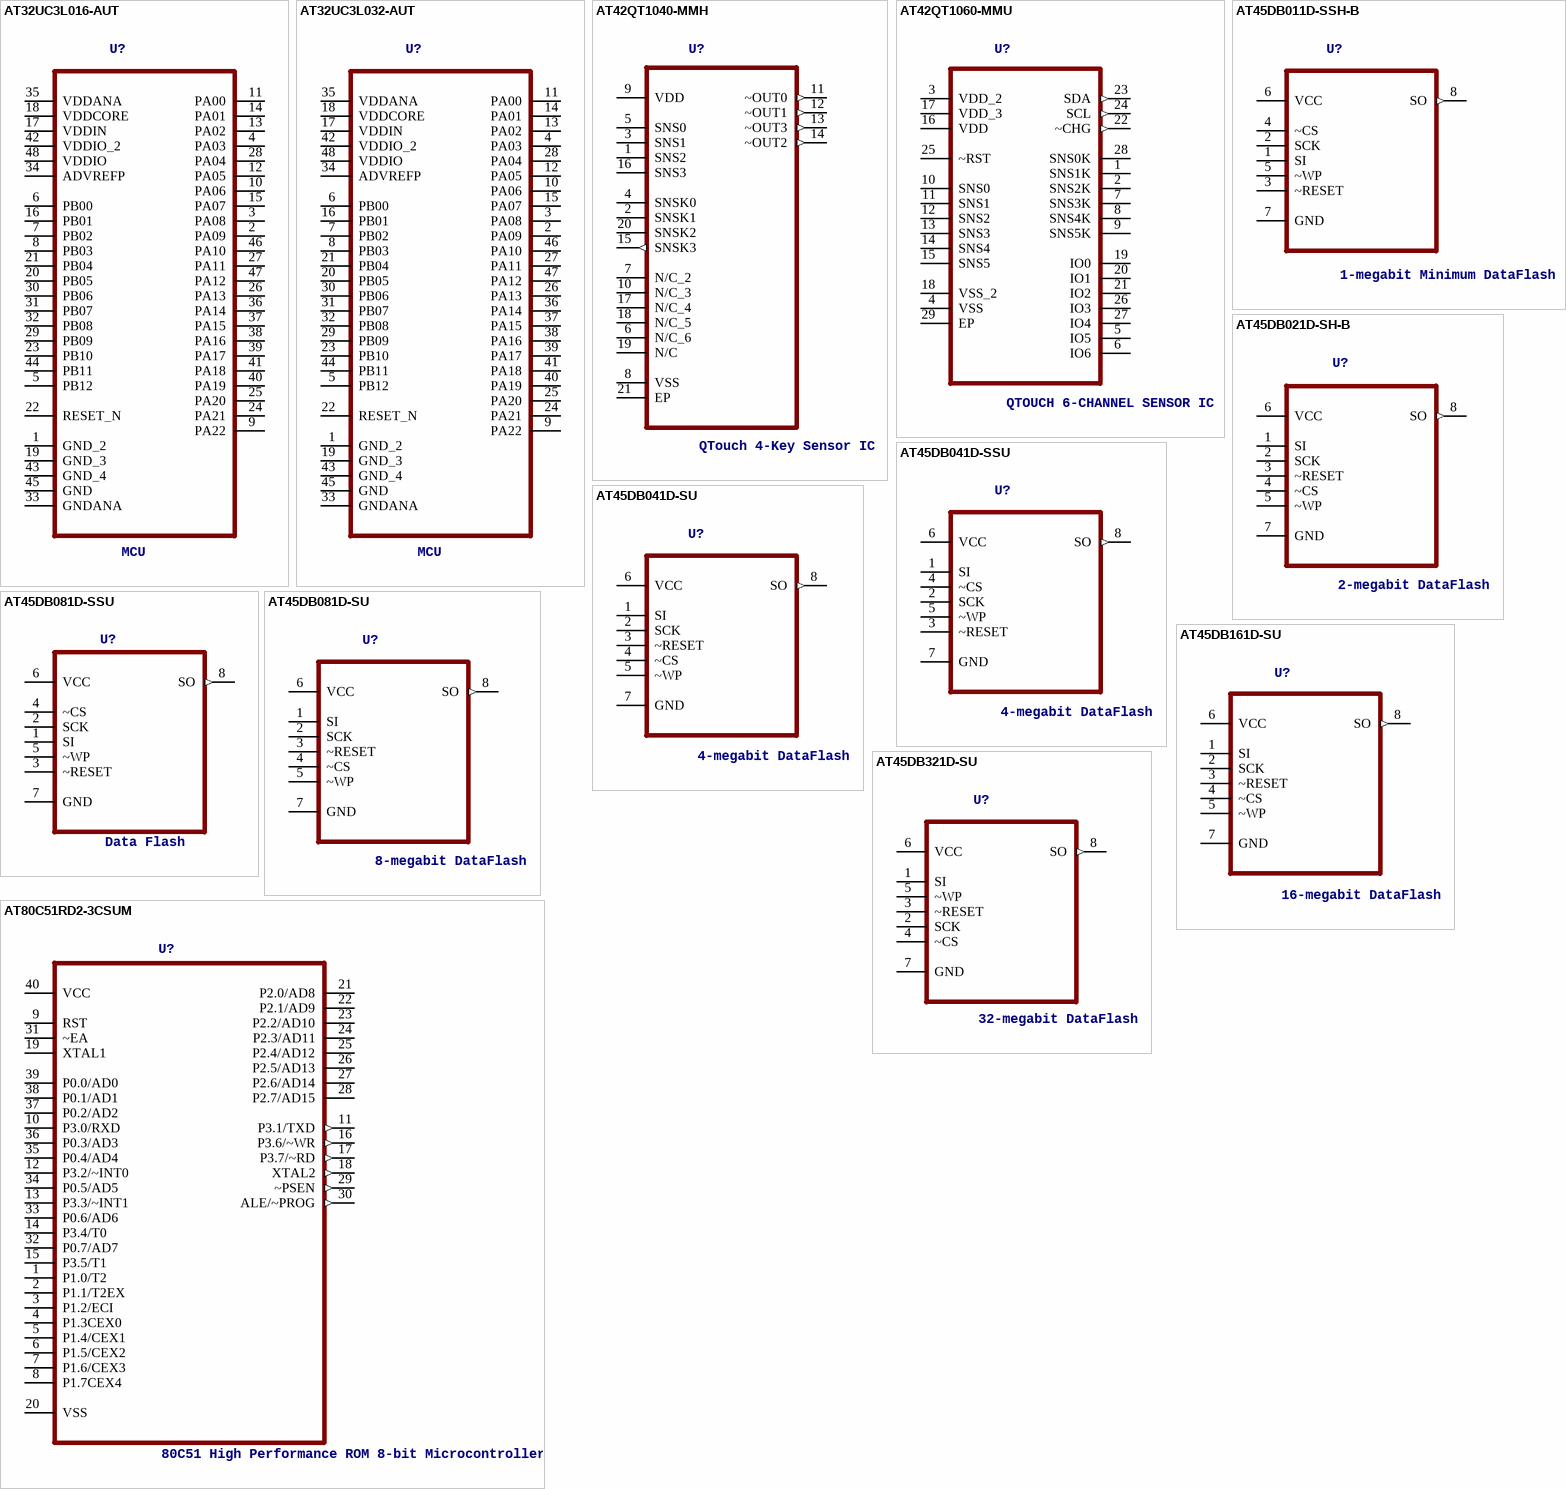
[diagram p6: symbols AT32UC3L016-AUT to AT80C51RD2-3CSUM]

## AT32UC3L016-AUT
designator U?, comment MCU
MPN: AT32UC3L016-AUT; DESCRIPTION: MCU; OC_FARNELL: 1841643; OC_NEWARK: 12T1378; PACKAGE: QFP-48; SUPPLIER: Atmel
footprint QFP50P900X900X120-48N
pins: 1 GND_2, 2 PA09, 3 PA08, 4 PA03, 5 PB12, 6 PB00, 7 PB02, 8 PB03, 9 PA22, 10 PA06, 11 PA00, 12 PA05, 13 PA02, 14 PA01, 15 PA07, 16 PB01, 17 VDDIN (power), 18 VDDCORE (power), 19 GND_3, 20 PB05, 21 PB04, 22 RESET_N, 23 PB10, 24 PA21, 25 PA20, 26 PA13, 27 PA11, 28 PA04, 29 PB09, 30 PB06, 31 PB07, 32 PB08, 33 GNDANA, 34 ADVREFP (power), 35 VDDANA (power), 36 PA14, 37 PA15, 38 PA16, 39 PA17, 40 PA19, 41 PA18, 42 VDDIO_2 (power), 43 GND_4, 44 PB11, 45 GND, 46 PA10, 47 PA12, 48 VDDIO (power)

## AT32UC3L032-AUT
designator U?, comment MCU
MPN: AT32UC3L032-AUT; DESCRIPTION: MCU; OC_FARNELL: 1841644; OC_NEWARK: 12T1379; PACKAGE: QFP-48; SUPPLIER: Atmel
footprint QFP50P900X900X120-48N
pins: 1 GND_2, 2 PA09, 3 PA08, 4 PA03, 5 PB12, 6 PB00, 7 PB02, 8 PB03, 9 PA22, 10 PA06, 11 PA00, 12 PA05, 13 PA02, 14 PA01, 15 PA07, 16 PB01, 17 VDDIN (power), 18 VDDCORE (power), 19 GND_3, 20 PB05, 21 PB04, 22 RESET_N, 23 PB10, 24 PA21, 25 PA20, 26 PA13, 27 PA11, 28 PA04, 29 PB09, 30 PB06, 31 PB07, 32 PB08, 33 GNDANA, 34 ADVREFP (power), 35 VDDANA (power), 36 PA14, 37 PA15, 38 PA16, 39 PA17, 40 PA19, 41 PA18, 42 VDDIO_2 (power), 43 GND_4, 44 PB11, 45 GND, 46 PA10, 47 PA12, 48 VDDIO (power)

## AT42QT1040-MMH
designator U?, comment QTouch 4-Key Sensor IC
MPN: AT42QT1040-MMH; OC_FARNELL: 1748487; OC_NEWARK: 26R5669; PACKAGE: QFN-20; SUPPLIER: Atmel
footprint QFN45P300X300X85-21N
pins: 1 SNS2, 2 SNSK1, 3 SNS1, 4 SNSK0, 5 SNS0, 6 N/C_6, 7 N/C_2, 8 VSS, 9 VDD (power), 10 N/C_3, 11 ~OUT0 (out), 12 ~OUT1 (out), 13 ~OUT3 (out), 14 ~OUT2 (out), 15 SNSK3 (out), 16 SNS3, 17 N/C_4, 18 N/C_5, 19 N/C, 20 SNSK2, 21 EP

## AT42QT1060-MMU
designator U?, comment QTOUCH 6-CHANNEL SENSOR IC
MPN: AT42QT1060-MMU; OC_FARNELL: 1748489; OC_NEWARK: 68T4659; PACKAGE: QFN-28; SUPPLIER: ATMEL
footprint QFN45P400X400X100-29N
pins: 1 SNS1K, 2 SNS2K, 3 VDD_2 (power), 4 VSS, 5 IO5, 6 IO6, 7 SNS3K, 8 SNS4K, 9 SNS5K, 10 SNS0, 11 SNS1, 12 SNS2, 13 SNS3, 14 SNS4, 15 SNS5, 16 VDD (power), 17 VDD_3 (power), 18 VSS_2, 19 IO0, 20 IO1, 21 IO2, 22 ~CHG (out), 23 SDA (out), 24 SCL (out), 25 ~RST, 26 IO3, 27 IO4, 28 SNS0K, 29 EP

## AT45DB011D-SSH-B
designator U?, comment 1-megabit Minimum DataFlash
MPN: AT45DB011D-SSH-B; OC_FARNELL: 1715455; OC_NEWARK: 15R0319; PACKAGE: SOIC-8; SUPPLIER: Atmel
footprint SOIC127P600X175-8N
pins: 1 SI, 2 SCK, 3 ~RESET, 4 ~CS, 5 ~WP, 6 VCC (power), 7 GND, 8 SO (out)

## AT45DB021D-SH-B
designator U?, comment 2-megabit DataFlash
MPN: AT45DB021D-SH-B; OC_FARNELL: 1715456; OC_NEWARK: 14R9984; PACKAGE: SOIC-8; SUPPLIER: Atmel
footprint SOIC127P798X216-8N
pins: 1 SI, 2 SCK, 3 ~RESET, 4 ~CS, 5 ~WP, 6 VCC (power), 7 GND, 8 SO (out)

## AT45DB041D-SSU
designator U?, comment 4-megabit DataFlash
MPN: AT45DB041D-SSU; OC_FARNELL: 1455037; OC_NEWARK: 58M3835; PACKAGE: SOIC-8; SUPPLIER: Atmel
footprint SOIC127P600X175-8N
pins: 1 SI, 2 SCK, 3 ~RESET, 4 ~CS, 5 ~WP, 6 VCC (power), 7 GND, 8 SO (out)

## AT45DB041D-SU
designator U?, comment 4-megabit DataFlash
MPN: AT45DB041D-SU; OC_FARNELL: 1362661; OC_NEWARK: 50M3333; PACKAGE: SOIC-8; SUPPLIER: Atmel
footprint SOIC127P798X216-8N
pins: 1 SI, 2 SCK, 3 ~RESET, 4 ~CS, 5 ~WP, 6 VCC (power), 7 GND, 8 SO (out)

## AT45DB081D-SSU
designator U?, comment Data Flash
MPN: AT45DB081D-SSU; OC_FARNELL: 1455038; OC_NEWARK: 58M3836; PACKAGE: SOIC-8; SUPPLIER: Atmel
footprint SOIC127P600X175-8N
pins: 1 SI, 2 SCK, 3 ~RESET, 4 ~CS, 5 ~WP, 6 VCC (power), 7 GND, 8 SO (out)

## AT45DB081D-SU
designator U?, comment 8-megabit DataFlash
MPN: AT45DB081D-SU; OC_FARNELL: 1455039; OC_NEWARK: 58M3837; PACKAGE: SOIC-8; SUPPLIER: Atmel
footprint SOIC127P798X216-8N
pins: 1 SI, 2 SCK, 3 ~RESET, 4 ~CS, 5 ~WP, 6 VCC (power), 7 GND, 8 SO (out)

## AT45DB161D-SU
designator U?, comment 16-megabit DataFlash
MPN: AT45DB161D-SU; OC_FARNELL: 1455040; OC_NEWARK: 58M3838; PACKAGE: SOIC-8; SUPPLIER: Atmel
footprint SOIC127P798X216-8N
pins: 1 SI, 2 SCK, 3 ~RESET, 4 ~CS, 5 ~WP, 6 VCC (power), 7 GND, 8 SO (out)

## AT45DB321D-SU
designator U?, comment 32-megabit DataFlash
MPN: AT45DB321D-SU; OC_FARNELL: 1455042; OC_NEWARK: 58M3840; PACKAGE: SOIC-8; SUPPLIER: ATMEL
footprint SOIC127P798X216-8N
pins: 1 SI, 2 SCK, 3 ~RESET, 4 ~CS, 5 ~WP, 6 VCC (power), 7 GND, 8 SO (out)

## AT80C51RD2-3CSUM
designator U?, comment 80C51 High Performance ROM 8-bit Microcontroller
MPN: AT80C51RD2-3CSUM; OC_FARNELL: 1699387; OC_NEWARK: 80P3686; PACKAGE: PDIL-40; SUPPLIER: Atmel
footprint DIP254P1524X508-40
pins: 1 P1.0/T2, 2 P1.1/T2EX, 3 P1.2/ECI, 4 P1.3CEX0, 5 P1.4/CEX1, 6 P1.5/CEX2, 7 P1.6/CEX3, 8 P1.7CEX4, 9 RST, 10 P3.0/RXD, 11 P3.1/TXD (out), 12 P3.2/~INT0, 13 P3.3/~INT1, 14 P3.4/T0, 15 P3.5/T1, 16 P3.6/~WR (out), 17 P3.7/~RD (out), 18 XTAL2 (out), 19 XTAL1, 20 VSS, 21 P2.0/AD8, 22 P2.1/AD9, 23 P2.2/AD10, 24 P2.3/AD11, 25 P2.4/AD12, 26 P2.5/AD13, 27 P2.6/AD14, 28 P2.7/AD15, 29 ~PSEN (out), 30 ALE/~PROG (out), 31 ~EA, 32 P0.7/AD7, 33 P0.6/AD6, 34 P0.5/AD5, 35 P0.4/AD4, 36 P0.3/AD3, 37 P0.2/AD2, 38 P0.1/AD1, 39 P0.0/AD0, 40 VCC (power)

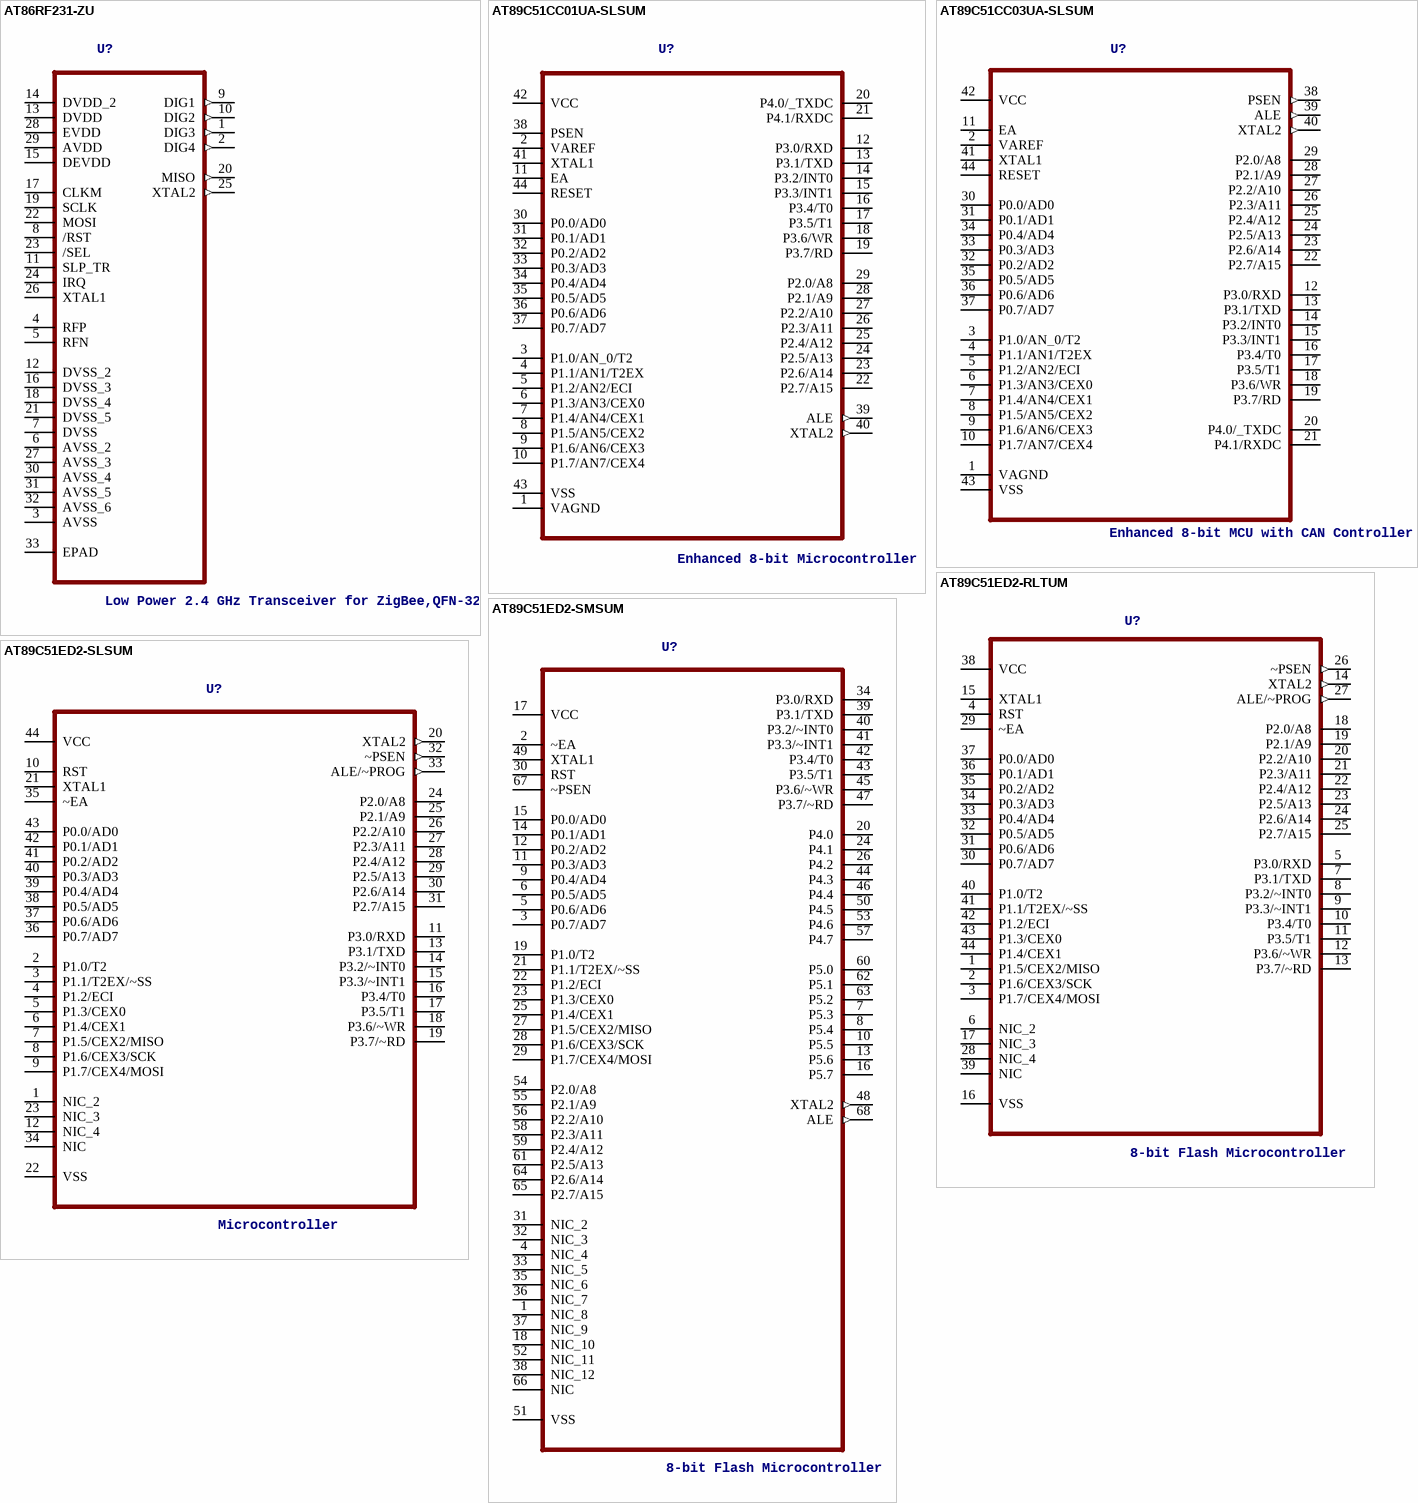
[diagram p7: symbols AT86RF231-ZU to AT89C51ED2-SMSUM]

## AT86RF231-ZU
designator U?, comment Low Power 2.4 GHz Transceiver for ZigBee,QFN-32
MPN: AT86RF231-ZU; OC_FARNELL: 1748493; OC_NEWARK: 68T4736; PACKAGE: QFN-32; SUPPLIER: ATMEL
footprint QFN50P500X500X100-32N
pins: 1 DIG3 (out), 2 DIG4 (out), 3 AVSS (power), 4 RFP, 5 RFN, 6 AVSS_2 (power), 7 DVSS (power), 8 /RST, 9 DIG1 (out), 10 DIG2 (out), 11 SLP_TR, 12 DVSS_2 (power), 13 DVDD (power), 14 DVDD_2 (power), 15 DEVDD (power), 16 DVSS_3 (power), 17 CLKM, 18 DVSS_4 (power), 19 SCLK, 20 MISO (out), 21 DVSS_5 (power), 22 MOSI, 23 /SEL, 24 IRQ, 25 XTAL2 (out), 26 XTAL1, 27 AVSS_3 (power), 28 EVDD (power), 29 AVDD (power), 30 AVSS_4 (power), 31 AVSS_5 (power), 32 AVSS_6 (power), 33 EPAD

## AT89C51CC01UA-SLSUM
designator U?, comment Enhanced 8-bit Microcontroller
MPN: AT89C51CC01UA-SLSUM; DESCRIPTION: Enhanced 8-bit Microcontroller; OC_FARNELL: 1095722; OC_NEWARK: 96K6565; PACKAGE: PLCC-44; SUPPLIER: Atmel
footprint PLCC127P1752X1752X457-44N
pins: 1 VAGND, 2 VAREF, 3 P1.0/AN_0/T2, 4 P1.1/AN1/T2EX, 5 P1.2/AN2/ECI, 6 P1.3/AN3/CEX0, 7 P1.4/AN4/CEX1, 8 P1.5/AN5/CEX2, 9 P1.6/AN6/CEX3, 10 P1.7/AN7/CEX4, 11 EA, 12 P3.0/RXD, 13 P3.1/TXD, 14 P3.2/INT0, 15 P3.3/INT1, 16 P3.4/T0, 17 P3.5/T1, 18 P3.6/WR, 19 P3.7/RD, 20 P4.0/_TXDC, 21 P4.1/RXDC, 22 P2.7/A15, 23 P2.6/A14, 24 P2.5/A13, 25 P2.4/A12, 26 P2.3/A11, 27 P2.2/A10, 28 P2.1/A9, 29 P2.0/A8, 30 P0.0/AD0, 31 P0.1/AD1, 32 P0.2/AD2, 33 P0.3/AD3, 34 P0.4/AD4, 35 P0.5/AD5, 36 P0.6/AD6, 37 P0.7/AD7, 38 PSEN, 39 ALE (out), 40 XTAL2 (out), 41 XTAL1, 42 VCC (power), 43 VSS (power), 44 RESET

## AT89C51CC03UA-SLSUM
designator U?, comment Enhanced 8-bit MCU with CAN Controller
MPN: AT89C51CC03UA-SLSUM; DESCRIPTION: Enhanced 8-bit MCU with CAN Controller; OC_FARNELL: 1095723; OC_NEWARK: 96K6566; PACKAGE: PLCC-44; SUPPLIER: ATMEL
footprint PLCC127P1752X1752X457-44N
pins: 1 VAGND, 2 VAREF, 3 P1.0/AN_0/T2, 4 P1.1/AN1/T2EX, 5 P1.2/AN2/ECI, 6 P1.3/AN3/CEX0, 7 P1.4/AN4/CEX1, 8 P1.5/AN5/CEX2, 9 P1.6/AN6/CEX3, 10 P1.7/AN7/CEX4, 11 EA, 12 P3.0/RXD, 13 P3.1/TXD, 14 P3.2/INT0, 15 P3.3/INT1, 16 P3.4/T0, 17 P3.5/T1, 18 P3.6/WR, 19 P3.7/RD, 20 P4.0/_TXDC, 21 P4.1/RXDC, 22 P2.7/A15, 23 P2.6/A14, 24 P2.5/A13, 25 P2.4/A12, 26 P2.3/A11, 27 P2.2/A10, 28 P2.1/A9, 29 P2.0/A8, 30 P0.0/AD0, 31 P0.1/AD1, 32 P0.2/AD2, 33 P0.3/AD3, 34 P0.4/AD4, 35 P0.5/AD5, 36 P0.6/AD6, 37 P0.7/AD7, 38 PSEN (out), 39 ALE (out), 40 XTAL2 (out), 41 XTAL1, 42 VCC (power), 43 VSS (power), 44 RESET

## AT89C51ED2-RLTUM
designator U?, comment 8-bit Flash Microcontroller
MPN: AT89C51ED2-RLTUM; DESCRIPTION: 8-bit Flash Microcontroller; OC_FARNELL: 1095725; OC_NEWARK: 96K6567; PACKAGE: VQFP-44; SUPPLIER: ATMEL
footprint QFP80P1200X1200X160-44N
pins: 1 P1.5/CEX2/MISO, 2 P1.6/CEX3/SCK, 3 P1.7/CEX4/MOSI, 4 RST, 5 P3.0/RXD, 6 NIC_2, 7 P3.1/TXD, 8 P3.2/~INT0, 9 P3.3/~INT1, 10 P3.4/T0, 11 P3.5/T1, 12 P3.6/~WR, 13 P3.7/~RD, 14 XTAL2 (out), 15 XTAL1, 16 VSS (power), 17 NIC_3, 18 P2.0/A8, 19 P2.1/A9, 20 P2.2/A10, 21 P2.3/A11, 22 P2.4/A12, 23 P2.5/A13, 24 P2.6/A14, 25 P2.7/A15, 26 ~PSEN (out), 27 ALE/~PROG (out), 28 NIC_4, 29 ~EA, 30 P0.7/AD7, 31 P0.6/AD6, 32 P0.5/AD5, 33 P0.4/AD4, 34 P0.3/AD3, 35 P0.2/AD2, 36 P0.1/AD1, 37 P0.0/AD0, 38 VCC (power), 39 NIC, 40 P1.0/T2, 41 P1.1/T2EX/~SS, 42 P1.2/ECI, 43 P1.3/CEX0, 44 P1.4/CEX1

## AT89C51ED2-SLSUM
designator U?, comment Microcontroller
MPN: AT89C51ED2-SLSUM; DESCRIPTION: Microcontroller; OC_FARNELL: 1095726; OC_NEWARK: 78K5790; PACKAGE: PLCC-44; SUPPLIER: ATMEL
footprint PLCC127P1655X1655X457-44N
pins: 1 NIC_2, 2 P1.0/T2, 3 P1.1/T2EX/~SS, 4 P1.2/ECI, 5 P1.3/CEX0, 6 P1.4/CEX1, 7 P1.5/CEX2/MISO, 8 P1.6/CEX3/SCK, 9 P1.7/CEX4/MOSI, 10 RST, 11 P3.0/RXD, 12 NIC_4, 13 P3.1/TXD, 14 P3.2/~INT0, 15 P3.3/~INT1, 16 P3.4/T0, 17 P3.5/T1, 18 P3.6/~WR, 19 P3.7/~RD, 20 XTAL2 (out), 21 XTAL1, 22 VSS (power), 23 NIC_3, 24 P2.0/A8, 25 P2.1/A9, 26 P2.2/A10, 27 P2.3/A11, 28 P2.4/A12, 29 P2.5/A13, 30 P2.6/A14, 31 P2.7/A15, 32 ~PSEN (out), 33 ALE/~PROG (out), 34 NIC, 35 ~EA, 36 P0.7/AD7, 37 P0.6/AD6, 38 P0.5/AD5, 39 P0.4/AD4, 40 P0.3/AD3, 41 P0.2/AD2, 42 P0.1/AD1, 43 P0.0/AD0, 44 VCC (power)

## AT89C51ED2-SMSUM
designator U?, comment 8-bit Flash Microcontroller
MPN: AT89C51ED2-SMSUM; DESCRIPTION: 8-bit Flash Microcontroller; OC_FARNELL: 1095727; OC_NEWARK: 96K6568; PACKAGE: PLCC-68; SUPPLIER: Atmel
footprint PLCC127P2514X2514X508-68N
pins: 1 NIC_8, 2 ~EA, 3 P0.7/AD7, 4 NIC_4, 5 P0.6/AD6, 6 P0.5/AD5, 7 P5.3, 8 P5.4, 9 P0.4/AD4, 10 P5.5, 11 P0.3/AD3, 12 P0.2/AD2, 13 P5.6, 14 P0.1/AD1, 15 P0.0/AD0, 16 P5.7, 17 VCC (power), 18 NIC_10, 19 P1.0/T2, 20 P4.0, 21 P1.1/T2EX/~SS, 22 P1.2/ECI, 23 P1.3/CEX0, 24 P4.1, 25 P1.4/CEX1, 26 P4.2, 27 P1.5/CEX2/MISO, 28 P1.6/CEX3/SCK, 29 P1.7/CEX4/MOSI, 30 RST, 31 NIC_2, 32 NIC_3, 33 NIC_5, 34 P3.0/RXD, 35 NIC_6, 36 NIC_7, 37 NIC_9, 38 NIC_12, 39 P3.1/TXD, 40 P3.2/~INT0, 41 P3.3/~INT1, 42 P3.4/T0, 43 P3.5/T1, 44 P4.3, 45 P3.6/~WR, 46 P4.4, 47 P3.7/~RD, 48 XTAL2 (out), 49 XTAL1, 50 P4.5, 51 VSS (power), 52 NIC_11, 53 P4.6, 54 P2.0/A8, 55 P2.1/A9, 56 P2.2/A10, 57 P4.7, 58 P2.3/A11, 59 P2.4/A12, 60 P5.0, 61 P2.5/A13, 62 P5.1, 63 P5.2, 64 P2.6/A14, 65 P2.7/A15, 66 NIC, 67 ~PSEN, 68 ALE (out)

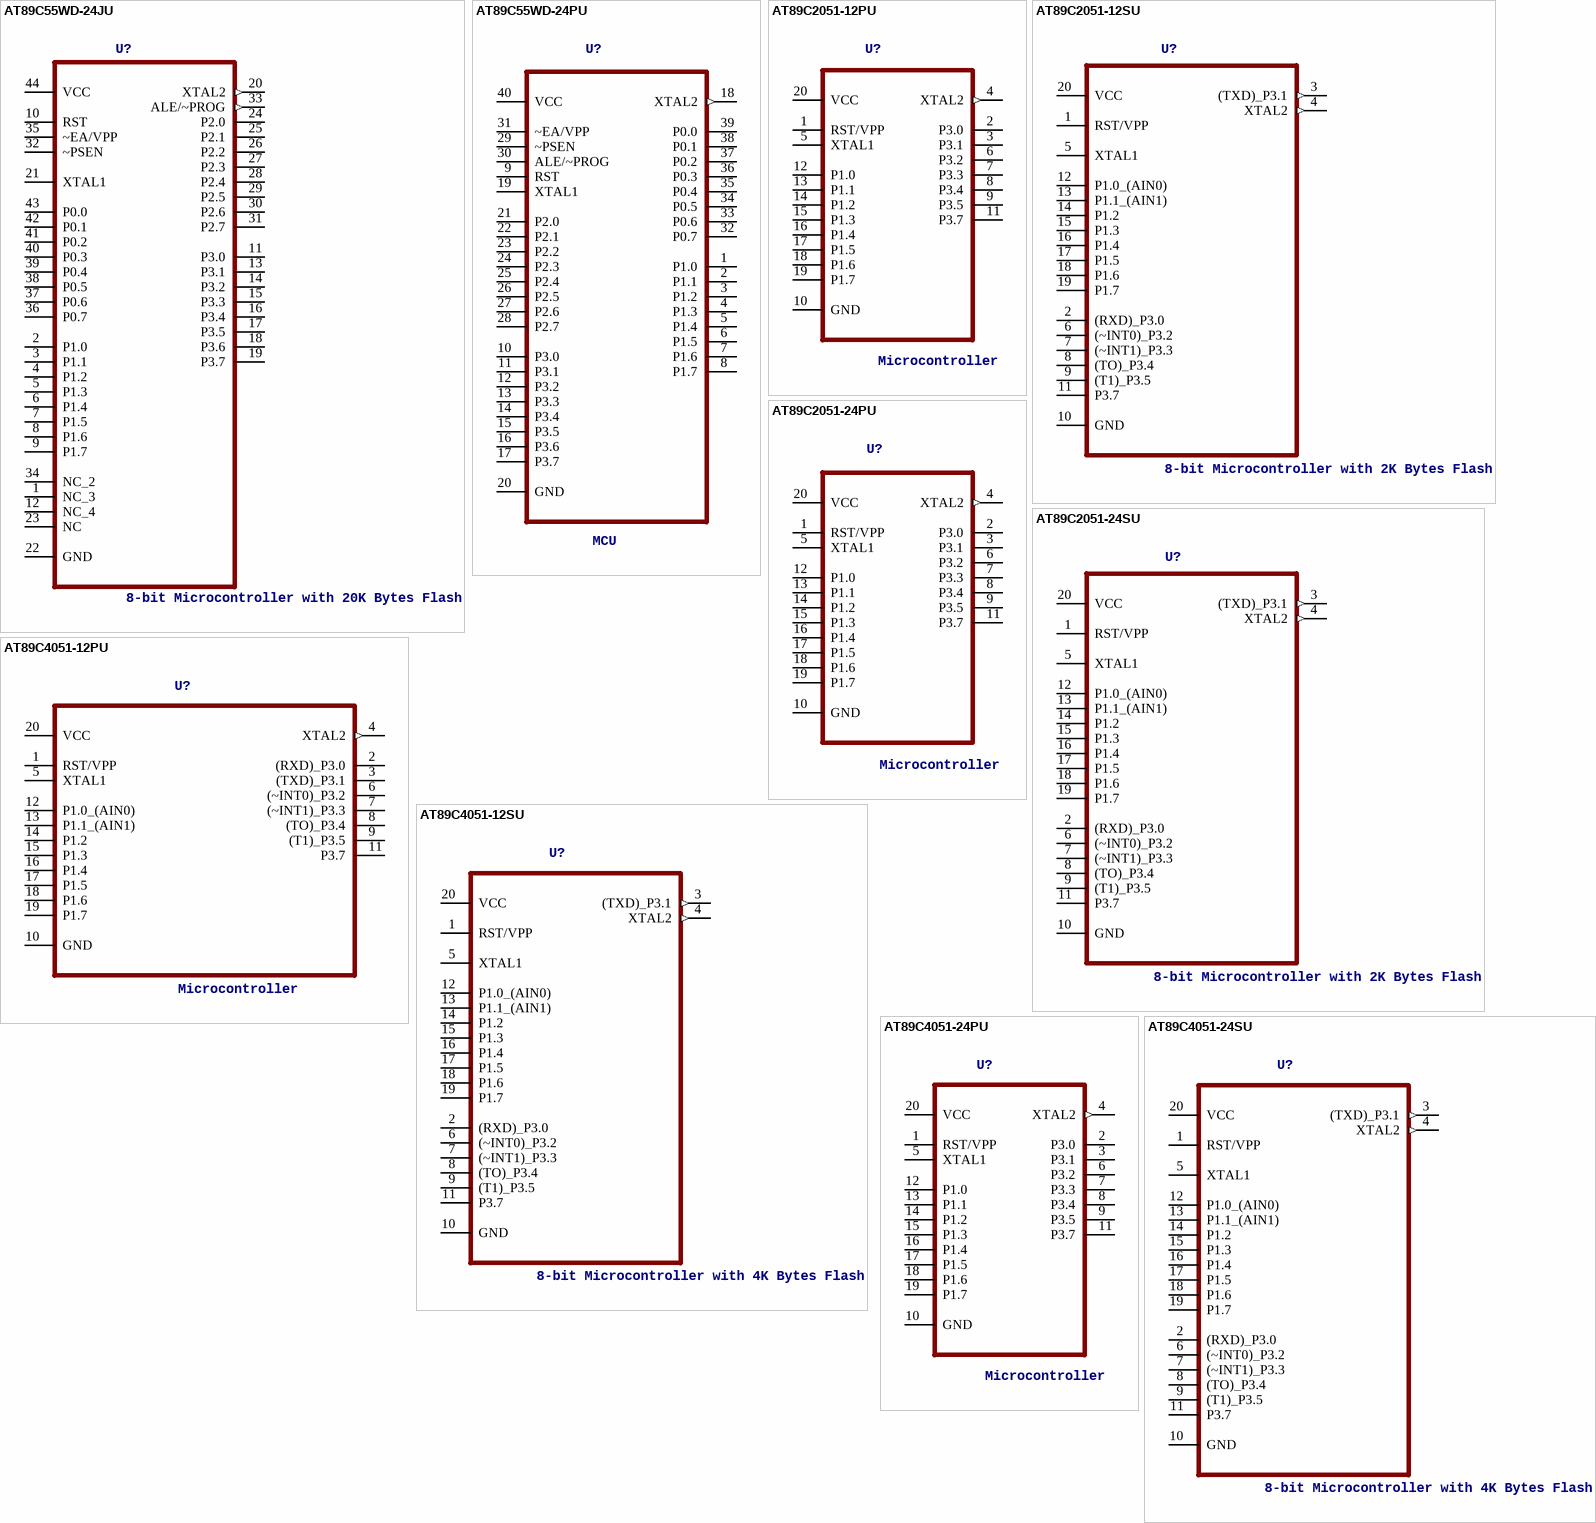
[diagram p8: symbols AT89C55WD-24JU to AT89C4051-24SU]

## AT89C55WD-24JU
designator U?, comment 8-bit Microcontroller with 20K Bytes Flash
MPN: AT89C55WD-24JU; OC_FARNELL: 1095731; OC_NEWARK: 96K6571; PACKAGE: PLCC-44; SUPPLIER: Atmel
footprint PLCC127P1752X1752X457-44N
pins: 1 NC_3, 2 P1.0, 3 P1.1, 4 P1.2, 5 P1.3, 6 P1.4, 7 P1.5, 8 P1.6, 9 P1.7, 10 RST, 11 P3.0, 12 NC_4, 13 P3.1, 14 P3.2, 15 P3.3, 16 P3.4, 17 P3.5, 18 P3.6, 19 P3.7, 20 XTAL2 (out), 21 XTAL1, 22 GND, 23 NC, 24 P2.0, 25 P2.1, 26 P2.2, 27 P2.3, 28 P2.4, 29 P2.5, 30 P2.6, 31 P2.7, 32 ~PSEN, 33 ALE/~PROG (out), 34 NC_2, 35 ~EA/VPP, 36 P0.7, 37 P0.6, 38 P0.5, 39 P0.4, 40 P0.3, 41 P0.2, 42 P0.1, 43 P0.0, 44 VCC (power)

## AT89C55WD-24PU
designator U?, comment MCU
MPN: AT89C55WD-24PU; DESCRIPTION: MCU; OC_FARNELL: 1095732; OC_NEWARK: 96K6572; PACKAGE: DIP-40; SUPPLIER: Atmel
footprint DIP254P1524X482-40
pins: 1 P1.0, 2 P1.1, 3 P1.2, 4 P1.3, 5 P1.4, 6 P1.5, 7 P1.6, 8 P1.7, 9 RST, 10 P3.0, 11 P3.1, 12 P3.2, 13 P3.3, 14 P3.4, 15 P3.5, 16 P3.6, 17 P3.7, 18 XTAL2 (out), 19 XTAL1, 20 GND, 21 P2.0, 22 P2.1, 23 P2.2, 24 P2.3, 25 P2.4, 26 P2.5, 27 P2.6, 28 P2.7, 29 ~PSEN, 30 ALE/~PROG, 31 ~EA/VPP, 32 P0.7, 33 P0.6, 34 P0.5, 35 P0.4, 36 P0.3, 37 P0.2, 38 P0.1, 39 P0.0, 40 VCC (power)

## AT89C2051-12PU
designator U?, comment Microcontroller
MPN: AT89C2051-12PU; OC_FARNELL: 1699389; OC_NEWARK: 68T4860; PACKAGE: DIP-20; SUPPLIER: ATMEL
footprint DIP254P762X533-20
pins: 1 RST/VPP, 2 P3.0, 3 P3.1, 4 XTAL2 (out), 5 XTAL1, 6 P3.2, 7 P3.3, 8 P3.4, 9 P3.5, 10 GND, 11 P3.7, 12 P1.0, 13 P1.1, 14 P1.2, 15 P1.3, 16 P1.4, 17 P1.5, 18 P1.6, 19 P1.7, 20 VCC (power)

## AT89C2051-12SU
designator U?, comment 8-bit Microcontroller with 2K Bytes Flash
MPN: AT89C2051-12SU; DESCRIPTION: 8-bit Microcontroller with 2K Bytes Flash; OC_FARNELL: 1699390; OC_NEWARK: 80P3688; PACKAGE: SOIC-20; SUPPLIER: Atmel
footprint SOIC127P1032X265-20N
pins: 1 RST/VPP, 2 (RXD)_P3.0, 3 (TXD)_P3.1 (out), 4 XTAL2 (out), 5 XTAL1, 6 (~INT0)_P3.2, 7 (~INT1)_P3.3, 8 (TO)_P3.4, 9 (T1)_P3.5, 10 GND, 11 P3.7, 12 P1.0_(AIN0), 13 P1.1_(AIN1), 14 P1.2, 15 P1.3, 16 P1.4, 17 P1.5, 18 P1.6, 19 P1.7, 20 VCC (power)

## AT89C2051-24PU
designator U?, comment Microcontroller
MPN: AT89C2051-24PU; OC_FARNELL: 1715457; OC_NEWARK: 15R0320; PACKAGE: DIP-20; SUPPLIER: ATMEL
footprint DIP254P762X533-20
pins: 1 RST/VPP, 2 P3.0, 3 P3.1, 4 XTAL2 (out), 5 XTAL1, 6 P3.2, 7 P3.3, 8 P3.4, 9 P3.5, 10 GND, 11 P3.7, 12 P1.0, 13 P1.1, 14 P1.2, 15 P1.3, 16 P1.4, 17 P1.5, 18 P1.6, 19 P1.7, 20 VCC (power)

## AT89C2051-24SU
designator U?, comment 8-bit Microcontroller with 2K Bytes Flash
MPN: AT89C2051-24SU; DESCRIPTION: 8-bit Microcontroller with 2K Bytes Flash; OC_FARNELL: 1715459; OC_NEWARK: 15R0321; PACKAGE: SOIC-20; SUPPLIER: Atmel
footprint SOIC127P1032X265-20N
pins: 1 RST/VPP, 2 (RXD)_P3.0, 3 (TXD)_P3.1 (out), 4 XTAL2 (out), 5 XTAL1, 6 (~INT0)_P3.2, 7 (~INT1)_P3.3, 8 (TO)_P3.4, 9 (T1)_P3.5, 10 GND, 11 P3.7, 12 P1.0_(AIN0), 13 P1.1_(AIN1), 14 P1.2, 15 P1.3, 16 P1.4, 17 P1.5, 18 P1.6, 19 P1.7, 20 VCC (power)

## AT89C4051-12PU
designator U?, comment Microcontroller
MPN: AT89C4051-12PU; DESCRIPTION: Microcontroller; OC_FARNELL: 1699391; OC_NEWARK: 80P3689; PACKAGE: DIP-20; SUPPLIER: ATMEL
footprint DIP254P762X533-20
pins: 1 RST/VPP (power), 2 (RXD)_P3.0, 3 (TXD)_P3.1, 4 XTAL2 (out), 5 XTAL1, 6 (~INT0)_P3.2, 7 (~INT1)_P3.3, 8 (TO)_P3.4, 9 (T1)_P3.5, 10 GND, 11 P3.7, 12 P1.0_(AIN0), 13 P1.1_(AIN1), 14 P1.2, 15 P1.3, 16 P1.4, 17 P1.5, 18 P1.6, 19 P1.7, 20 VCC (power)

## AT89C4051-12SU
designator U?, comment 8-bit Microcontroller with 4K Bytes Flash
MPN: AT89C4051-12SU; DESCRIPTION: 8-bit Microcontroller with 4K Bytes Flash; OC_FARNELL: 1699392; OC_NEWARK: -; PACKAGE: SOIC-20; SUPPLIER: Atmel
footprint SOIC127P1032X265-20N
pins: 1 RST/VPP, 2 (RXD)_P3.0, 3 (TXD)_P3.1 (out), 4 XTAL2 (out), 5 XTAL1, 6 (~INT0)_P3.2, 7 (~INT1)_P3.3, 8 (TO)_P3.4, 9 (T1)_P3.5, 10 GND, 11 P3.7, 12 P1.0_(AIN0), 13 P1.1_(AIN1), 14 P1.2, 15 P1.3, 16 P1.4, 17 P1.5, 18 P1.6, 19 P1.7, 20 VCC (power)

## AT89C4051-24PU
designator U?, comment Microcontroller
MPN: AT89C4051-24PU; OC_FARNELL: 1715461; OC_NEWARK: 15R0322; PACKAGE: DIP-20; SUPPLIER: ATMEL
footprint DIP254P762X533-20
pins: 1 RST/VPP, 2 P3.0, 3 P3.1, 4 XTAL2 (out), 5 XTAL1, 6 P3.2, 7 P3.3, 8 P3.4, 9 P3.5, 10 GND, 11 P3.7, 12 P1.0, 13 P1.1, 14 P1.2, 15 P1.3, 16 P1.4, 17 P1.5, 18 P1.6, 19 P1.7, 20 VCC (power)

## AT89C4051-24SU
designator U?, comment 8-bit Microcontroller with 4K Bytes Flash
MPN: AT89C4051-24SU; DESCRIPTION: 8-bit Microcontroller with 4K Bytes Flash; OC_FARNELL: 1715462; OC_NEWARK: 15R0323; PACKAGE: SOIC-20; SUPPLIER: Atmel
footprint SOIC127P1032X265-20N
pins: 1 RST/VPP, 2 (RXD)_P3.0, 3 (TXD)_P3.1 (out), 4 XTAL2 (out), 5 XTAL1, 6 (~INT0)_P3.2, 7 (~INT1)_P3.3, 8 (TO)_P3.4, 9 (T1)_P3.5, 10 GND, 11 P3.7, 12 P1.0_(AIN0), 13 P1.1_(AIN1), 14 P1.2, 15 P1.3, 16 P1.4, 17 P1.5, 18 P1.6, 19 P1.7, 20 VCC (power)

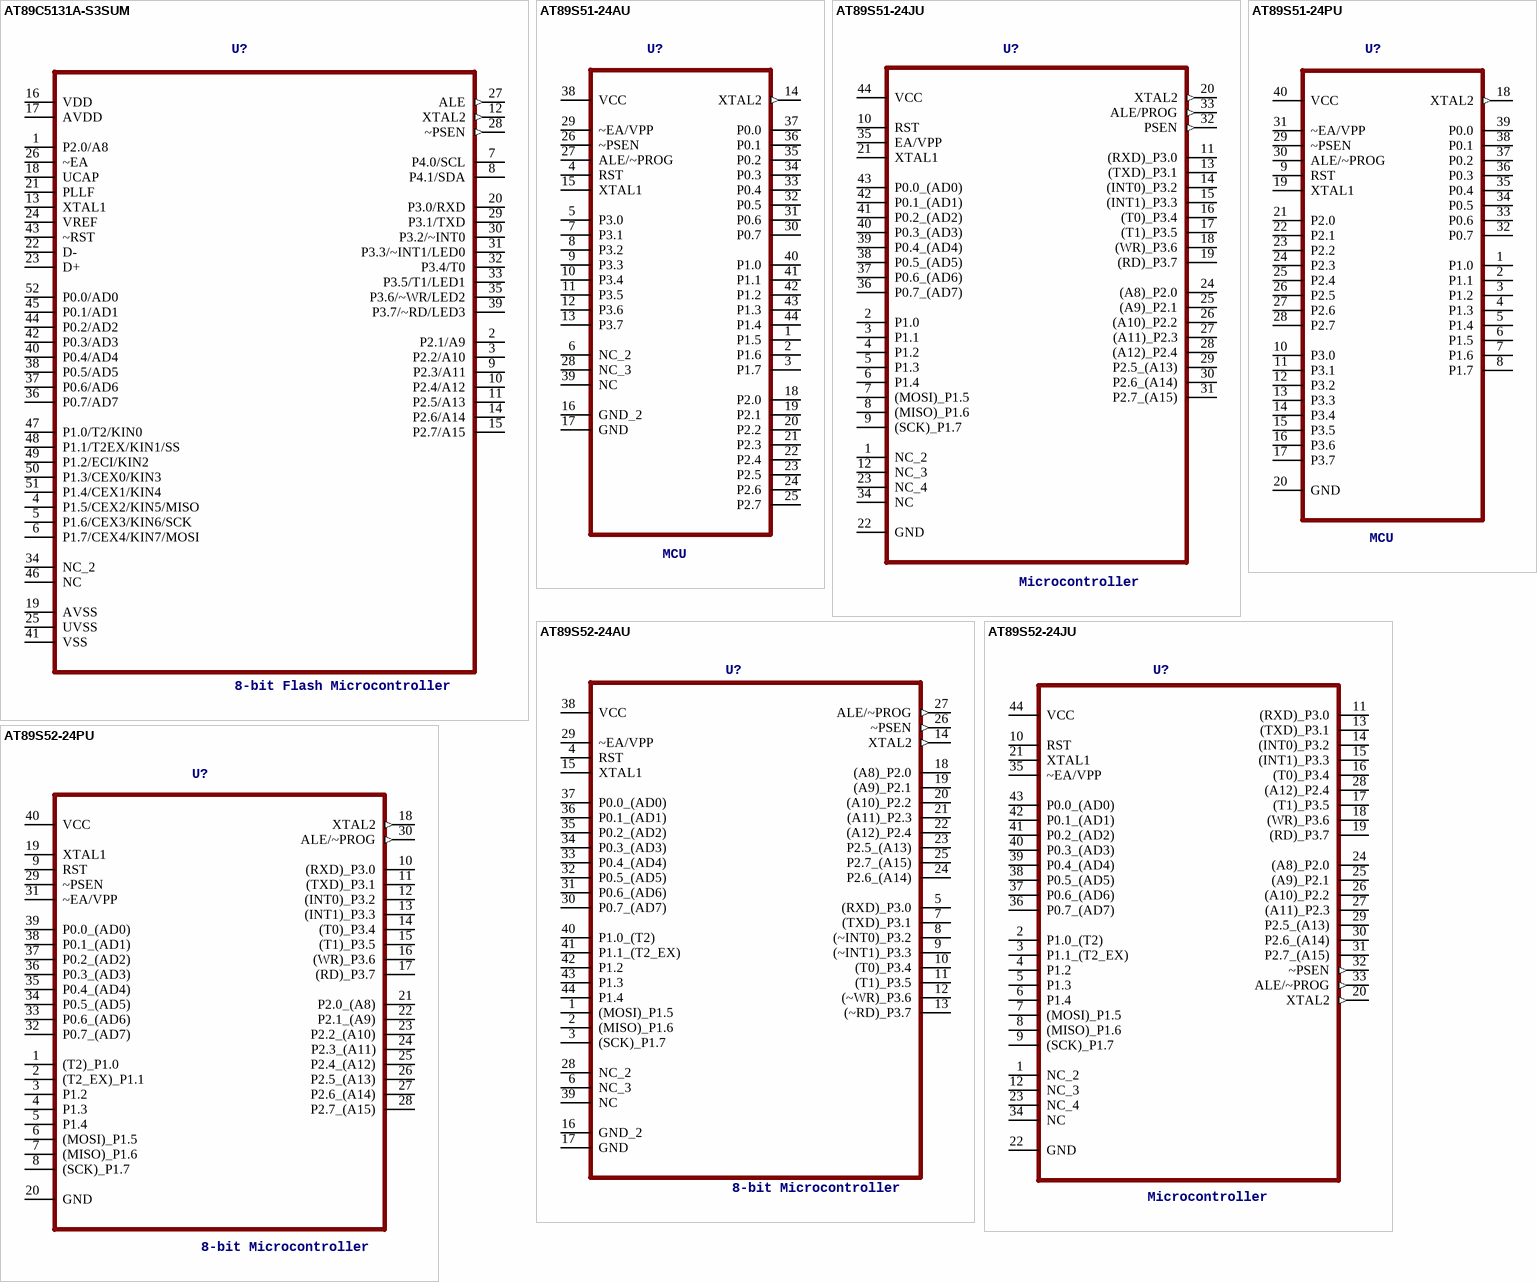
[diagram p9: symbols AT89C5131A-S3SUM to AT89S52-24PU]

## AT89C5131A-S3SUM
designator U?, comment 8-bit Flash Microcontroller
MPN: AT89C5131A-S3SUM; DESCRIPTION: 8-bit Flash Microcontroller; OC_FARNELL: 1095721; OC_NEWARK: 96K6570; PACKAGE: PLCC-52; SUPPLIER: Atmel
footprint PLCC127P2006X2006X457-52N
pins: 1 P2.0/A8, 2 P2.1/A9, 3 P2.2/A10, 4 P1.5/CEX2/KIN5/MISO, 5 P1.6/CEX3/KIN6/SCK, 6 P1.7/CEX4/KIN7/MOSI, 7 P4.0/SCL, 8 P4.1/SDA, 9 P2.3/A11, 10 P2.4/A12, 11 P2.5/A13, 12 XTAL2 (out), 13 XTAL1, 14 P2.6/A14, 15 P2.7/A15, 16 VDD (power), 17 AVDD (power), 18 UCAP, 19 AVSS (power), 20 P3.0/RXD, 21 PLLF, 22 D-, 23 D+, 24 VREF, 25 UVSS (power), 26 ~EA, 27 ALE (out), 28 ~PSEN (out), 29 P3.1/TXD, 30 P3.2/~INT0, 31 P3.3/~INT1/LED0, 32 P3.4/T0, 33 P3.5/T1/LED1, 34 NC_2, 35 P3.6/~WR/LED2, 36 P0.7/AD7, 37 P0.6/AD6, 38 P0.5/AD5, 39 P3.7/~RD/LED3, 40 P0.4/AD4, 41 VSS (power), 42 P0.3/AD3, 43 ~RST, 44 P0.2/AD2, 45 P0.1/AD1, 46 NC, 47 P1.0/T2/KIN0, 48 P1.1/T2EX/KIN1/SS, 49 P1.2/ECI/KIN2, 50 P1.3/CEX0/KIN3, 51 P1.4/CEX1/KIN4, 52 P0.0/AD0

## AT89S51-24AU
designator U?, comment MCU
MPN: AT89S51-24AU; DESCRIPTION: MCU; OC_FARNELL: 1841597; OC_NEWARK: 12T1383; PACKAGE: QFP-44; SUPPLIER: Atmel
footprint QFP80P1200X1200X120-44N
pins: 1 P1.5, 2 P1.6, 3 P1.7, 4 RST, 5 P3.0, 6 NC_2, 7 P3.1, 8 P3.2, 9 P3.3, 10 P3.4, 11 P3.5, 12 P3.6, 13 P3.7, 14 XTAL2 (out), 15 XTAL1, 16 GND_2, 17 GND, 18 P2.0, 19 P2.1, 20 P2.2, 21 P2.3, 22 P2.4, 23 P2.5, 24 P2.6, 25 P2.7, 26 ~PSEN, 27 ALE/~PROG, 28 NC_3, 29 ~EA/VPP, 30 P0.7, 31 P0.6, 32 P0.5, 33 P0.4, 34 P0.3, 35 P0.2, 36 P0.1, 37 P0.0, 38 VCC (power), 39 NC, 40 P1.0, 41 P1.1, 42 P1.2, 43 P1.3, 44 P1.4

## AT89S51-24JU
designator U?, comment Microcontroller
MPN: AT89S51-24JU; DESCRIPTION: Microcontroller; OC_FARNELL: 1095738; OC_NEWARK: 96K6577; PACKAGE: PLCC-44; SUPPLIER: ATMEL
footprint PLCC127P1752X1752X457-44N
pins: 1 NC_2, 2 P1.0, 3 P1.1, 4 P1.2, 5 P1.3, 6 P1.4, 7 (MOSI)_P1.5, 8 (MISO)_P1.6, 9 (SCK)_P1.7, 10 RST, 11 (RXD)_P3.0, 12 NC_3, 13 (TXD)_P3.1, 14 (INT0)_P3.2, 15 (INT1)_P3.3, 16 (T0)_P3.4, 17 (T1)_P3.5, 18 (WR)_P3.6, 19 (RD)_P3.7, 20 XTAL2 (out), 21 XTAL1, 22 GND, 23 NC_4, 24 (A8)_P2.0, 25 (A9)_P2.1, 26 (A10)_P2.2, 27 (A11)_P2.3, 28 (A12)_P2.4, 29 P2.5_(A13), 30 P2.6_(A14), 31 P2.7_(A15), 32 PSEN (out), 33 ALE/PROG (out), 34 NC, 35 EA/VPP, 36 P0.7_(AD7), 37 P0.6_(AD6), 38 P0.5_(AD5), 39 P0.4_(AD4), 40 P0.3_(AD3), 41 P0.2_(AD2), 42 P0.1_(AD1), 43 P0.0_(AD0), 44 VCC (power)

## AT89S51-24PU
designator U?, comment MCU
MPN: AT89S51-24PU; DESCRIPTION: MCU; OC_FARNELL: 1095739; OC_NEWARK: 96K6578; PACKAGE: DIP-40; SUPPLIER: Atmel
footprint DIP254P1524X482-40
pins: 1 P1.0, 2 P1.1, 3 P1.2, 4 P1.3, 5 P1.4, 6 P1.5, 7 P1.6, 8 P1.7, 9 RST, 10 P3.0, 11 P3.1, 12 P3.2, 13 P3.3, 14 P3.4, 15 P3.5, 16 P3.6, 17 P3.7, 18 XTAL2 (out), 19 XTAL1, 20 GND, 21 P2.0, 22 P2.1, 23 P2.2, 24 P2.3, 25 P2.4, 26 P2.5, 27 P2.6, 28 P2.7, 29 ~PSEN, 30 ALE/~PROG, 31 ~EA/VPP, 32 P0.7, 33 P0.6, 34 P0.5, 35 P0.4, 36 P0.3, 37 P0.2, 38 P0.1, 39 P0.0, 40 VCC (power)